# Altium schematic symbol library circuits integres.SchLib: 117 symbols (part 1 of 2)
Pins are listed as number, name and electrical type; pins without a type are passive.

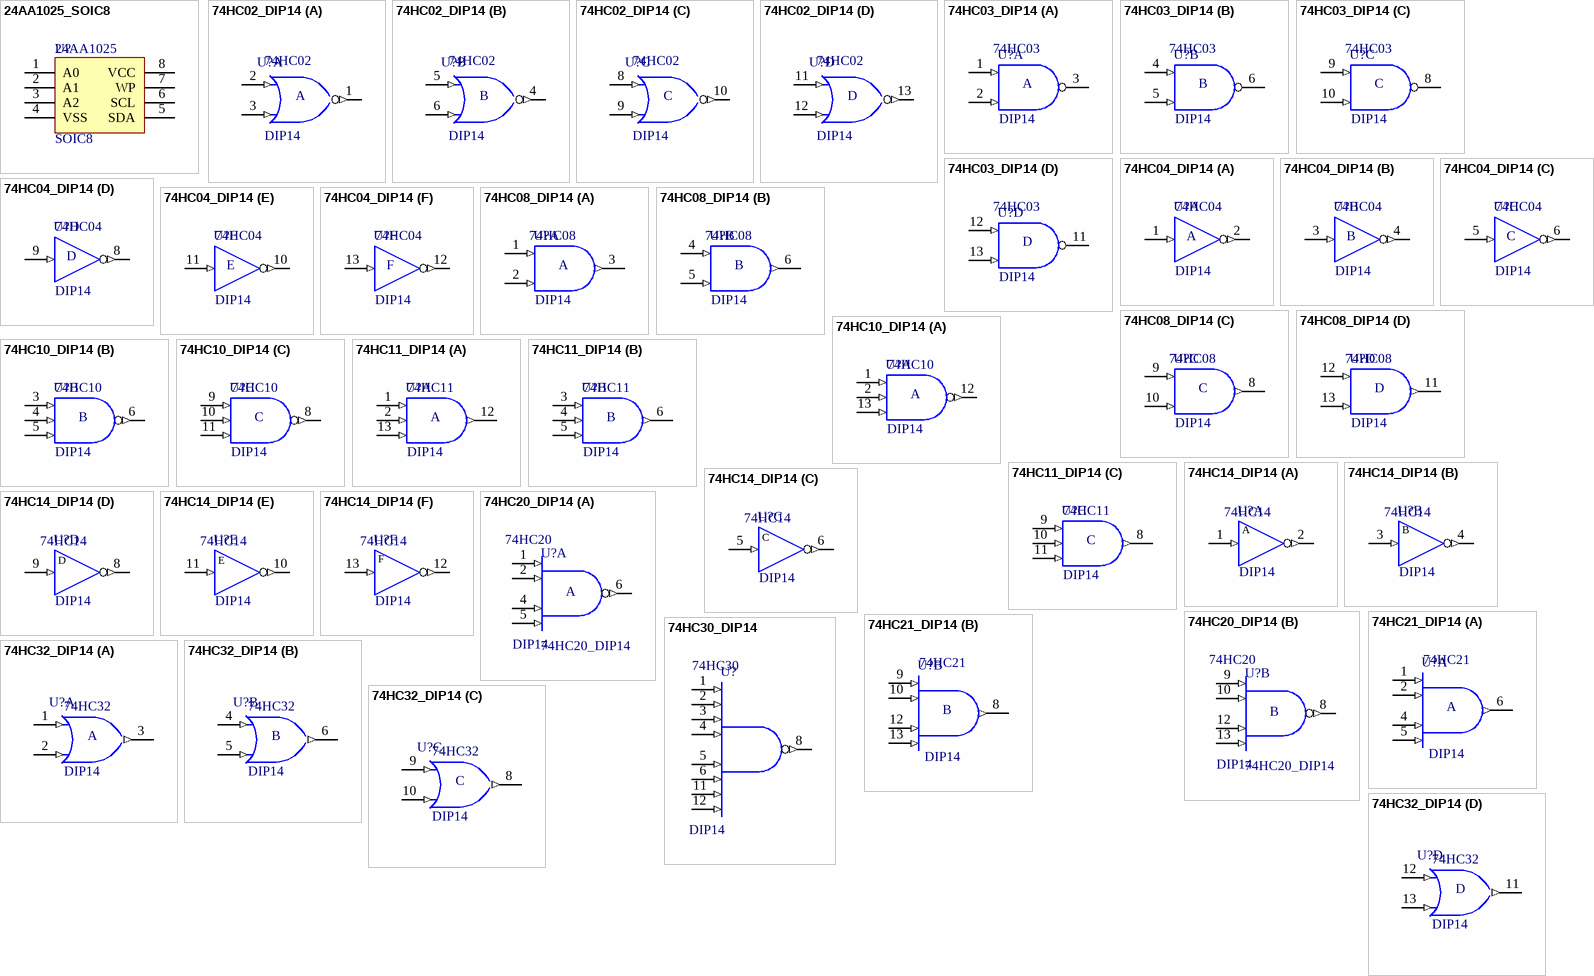
[diagram p0: symbols 24AA1025_SOIC8 to 74HC32_DIP14]

## 24AA1025_SOIC8
designator U?  Package: SOIC8  Type: 24AA1025  (hidden comment: 24AA1025_SOIC8)
MEMOIRE EEPROM SERIE 1024k - SOIC8
footprint SOIC8_PAS=1.27_LARG=4_LONG=5 (Small Outline Integrated Circuit ; 8 Leads ; Body Width = 4 mm ; Pitch = 1.27 mm ; IPC Low Density)
pins: 1 A0, 2 A1, 3 A2, 4 VSS, 5 SDA, 6 SCL, 7 WP, 8 VCC (power)

## 74HC02_DIP14
designator U?, comment Type: 74HC02  Package: DIP14  (hidden comment: 74HC02_DIP17)
4 PORTES LOGIQUES NOR A 2 ENTREES - DIP14
footprint Model Name (Footprint not found)
footprint DIP14_PAS=2.54_LARG=7.62_LONG=19 (Dual-In-Line Plastic Packages (PDIP) ; 14 Leads ; Row Spacing = 7.62 mm ; Pitch = 2.54 mm)
pins on every part: 7 GND (power) hidden to GND, 14 VCC (power) hidden to VCC
part A pins: 1 Y (out), 2 A (in), 3 B (in)
part B pins: 4 Y (out), 5 A (in), 6 B (in)
part C pins: 8 A (in), 9 B (in), 10 Y (out)
part D pins: 11 A (in), 12 B (in), 13 Y (out)
part C text: C
part D text: D

## 74HC03_DIP14
designator U?  Type: 74HC03  Package: DIP14  (hidden comment: 74HC03_DIP14)
4 PORTES LOGIQUES NAND A 2 ENTREES ET SORTIES DRAIN OUVERT - DIP14
3D model N014 (DIP; 14 Leads; Row Spacing 7.62 mm; Pitch 2.54 mm)
signal-integrity model SN74HC03N
footprint DIP14_PAS=2.54_LARG=7.62_LONG=19 (Dual-In-Line Plastic Packages (PDIP) ; 14 Leads ; Row Spacing = 7.62 mm ; Pitch = 2.54 mm)
pins on every part: 7 GND (power) hidden to GND, 14 VCC (power) hidden to VCC
part A pins: 1 A (in), 2 B (in), 3 Y (oc)
part B pins: 4 A (in), 5 B (in), 6 Y (oc)
part C pins: 8 Y (oc), 9 A (in), 10 B (in)
part D pins: 11 Y (oc), 12 A (in), 13 B (in)
part C text: C
part D text: D

## 74HC04_DIP14
designator U?  Type: 74HC04  Package: DIP14  (hidden comment: 74HC04_DIP14)
6 INVERSEURS - DIP14
3D model N014 (DIP; 14 Leads; Row Spacing 7.62 mm; Pitch 2.54 mm)
signal-integrity model SN74HC04N
footprint DIP14_PAS=2.54_LARG=7.62_LONG=19 (Dual-In-Line Plastic Packages (PDIP) ; 14 Leads ; Row Spacing = 7.62 mm ; Pitch = 2.54 mm)
pins on every part: 7 GND (power) hidden to GND, 14 VCC (power) hidden to VCC
part A pins: 1 A (in), 2 Y (out)
part B pins: 3 A (in), 4 Y (out)
part C pins: 5 A (in), 6 Y (out)
part D pins: 8 Y (out), 9 A (in)
part E pins: 10 Y (out), 11 A (in)
part F pins: 12 Y (out), 13 A (in)
part B text: B
part C text: C
part D text: D
part E text: E
part F text: F

## 74HC08_DIP14
designator U?  Type: 74HC08  Package: DIP14  (hidden comment: 74HC08_DIP14)
4 PORTES LOGIQUES AND A 2 ENTREES - DIP14
3D model DIP14 (DIP; 14 Leads; Row Spacing 7.62 mm; Pitch 2.54 mm)
signal-integrity model M74HC08B1R
footprint DIP14_PAS=2.54_LARG=7.62_LONG=19 (Dual-In-Line Plastic Packages (PDIP) ; 14 Leads ; Row Spacing = 7.62 mm ; Pitch = 2.54 mm)
pins on every part: 7 GND (power) hidden to GND, 14 VCC (power) hidden to VCC
part A pins: 1 A (in), 2 B (in), 3 Y (out)
part B pins: 4 A (in), 5 B (in), 6 Y (out)
part C pins: 8 Y (out), 9 A (in), 10 B (in)
part D pins: 11 Y (out), 12 A (in), 13 B (in)
part C text: C
part D text: D

## 74HC10_DIP14
designator U?  Type: 74HC10  Package: DIP14  (hidden comment: 74HC10_DIP14)
3 PORTES LOGIQUES NAND A 3 ENTREES - DIP14
3D model DIP14 (DIP; 14 Leads; Row Spacing 7.62 mm; Pitch 2.54 mm)
signal-integrity model M74HC10B1R
footprint DIP14_PAS=2.54_LARG=7.62_LONG=19 (Dual-In-Line Plastic Packages (PDIP) ; 14 Leads ; Row Spacing = 7.62 mm ; Pitch = 2.54 mm)
pins on every part: 7 GND (power) hidden to GND, 14 VCC (power) hidden to VCC
part A pins: 1 A (in), 2 B (in), 12 Y (out), 13 C (in)
part B pins: 3 A (in), 4 B (in), 5 C (in), 6 Y (out)
part C pins: 8 Y (out), 9 A (in), 10 B (in), 11 C (in)

## 74HC11_DIP14
designator U?  Type: 74HC11  Package: DIP14  (hidden comment: 74HC11_DIP14)
3 PORTES LOGIQUES AND A 3 ENTREES - DIP14
3D model DIP14 (DIP; 14 Leads; Row Spacing 7.62 mm; Pitch 2.54 mm)
signal-integrity model M74HC11B1R
footprint DIP14_PAS=2.54_LARG=7.62_LONG=19 (Dual-In-Line Plastic Packages (PDIP) ; 14 Leads ; Row Spacing = 7.62 mm ; Pitch = 2.54 mm)
pins on every part: 7 GND (power) hidden to GND, 14 VCC (power) hidden to VCC
part A pins: 1 A (in), 2 B (in), 12 Y (out), 13 C (in)
part B pins: 3 A (in), 4 B (in), 5 C (in), 6 Y (out)
part C pins: 8 Y (out), 9 A (in), 10 B (in), 11 C (in)

## 74HC14_DIP14
designator U?  Type: 74HC14  Package: DIP14  (hidden comment: 74HC14_DIP14)
6 PORTES LOGIQUES INVERSEUSES A TRIGGER DE SCHMITT - DIP14
signal-integrity model MC74HC14AN
3D model boitier_DIP14 (PCB3D Model)
footprint DIP14_PAS=2.54_LARG=7.62_LONG=19 (Dual-In-Line Plastic Packages (PDIP) ; 14 Leads ; Row Spacing = 7.62 mm ; Pitch = 2.54 mm)
pins on every part: 7 GND (power) hidden to GND, 14 VDD (power) hidden to VDD
part A pins: 1 A (in), 2 Y (out)
part B pins: 3 A (in), 4 Y (out)
part C pins: 5 A (in), 6 Y (out)
part D pins: 8 Y (out), 9 A (in)
part E pins: 10 Y (out), 11 A (in)
part F pins: 12 Y (out), 13 A (in)
part B text: B
part C text: C
part D text: D
part E text: E
part F text: F

## 74HC20_DIP14
designator U?  Package: DIP14  Type: 74HC20
2 PORTES LOGIQUES NAND A 4 ENTREES - DIP14
3D model DIP14 (DIP; 14 Leads; Row Spacing 7.62 mm; Pitch 2.54 mm)
signal-integrity model M74HC20B1R
footprint DIP14_PAS=2.54_LARG=7.62_LONG=19 (Dual-In-Line Plastic Packages (PDIP) ; 14 Leads ; Row Spacing = 7.62 mm ; Pitch = 2.54 mm)
pins on every part: 7 GND (power) hidden to GND, 14 VCC (power) hidden to VCC
part A pins: 1 A (in), 2 B (in), 4 C (in), 5 D (in), 6 Y (out)
part B pins: 8 Y (out), 9 A (in), 10 B (in), 12 C (in), 13 D (in)

## 74HC21_DIP14
designator U?  Type: 74HC21  Package: DIP14  (hidden comment: 74HC21_DIP14)
2 PORTES LOGIQUES NAND A 4 ENTREES - DIP14
3D model DIP14 (DIP; 14 Leads; Row Spacing 7.62 mm; Pitch 2.54 mm)
signal-integrity model M74HC21B1R
footprint DIP14_PAS=2.54_LARG=7.62_LONG=19 (Dual-In-Line Plastic Packages (PDIP) ; 14 Leads ; Row Spacing = 7.62 mm ; Pitch = 2.54 mm)
pins on every part: 7 GND (power) hidden to GND, 14 VCC (power) hidden to VCC
part A pins: 1 A (in), 2 B (in), 4 C (in), 5 D (in), 6 Y (out)
part B pins: 8 Y (out), 9 A (in), 10 B (in), 12 C (in), 13 D (in)

## 74HC30_DIP14
designator U?  Type: 74HC30  Package: DIP14  (hidden comment: 74HC30_DIP14)
PORTE LOGIQUE NAND A 8 ENTREES - DIP14
3D model DIP14 (DIP; 14 Leads; Row Spacing 7.62 mm; Pitch 2.54 mm)
signal-integrity model M74HC30B1R
footprint DIP14_PAS=2.54_LARG=7.62_LONG=19 (Dual-In-Line Plastic Packages (PDIP) ; 14 Leads ; Row Spacing = 7.62 mm ; Pitch = 2.54 mm)
pins: 1 A (in), 2 B (in), 3 C (in), 4 D (in), 5 E (in), 6 F (in), 7 GND (power) hidden to GND, 8 Y (out), 11 G (in), 12 H (in), 14 VCC (power) hidden to VCC

## 74HC32_DIP14
designator U?  Type: 74HC32  Package: DIP14  (hidden comment: 74HC32_DIP14)
4 PORTES LOGIQUES OR A 2 ENTREES - DIP14
3D model DIP14 (DIP; 14 Leads; Row Spacing 7.62 mm; Pitch 2.54 mm)
signal-integrity model M74HC32B1R
footprint DIP14_PAS=2.54_LARG=7.62_LONG=19 (Dual-In-Line Plastic Packages (PDIP) ; 14 Leads ; Row Spacing = 7.62 mm ; Pitch = 2.54 mm)
pins on every part: 7 GND (power) hidden to GND, 14 VCC (power) hidden to VCC
part A pins: 1 A (in), 2 B (in), 3 Y (out)
part B pins: 4 A (in), 5 B (in), 6 Y (out)
part C pins: 8 Y (out), 9 A (in), 10 B (in)
part D pins: 11 Y (out), 12 A (in), 13 B (in)
part C text: C
part D text: D

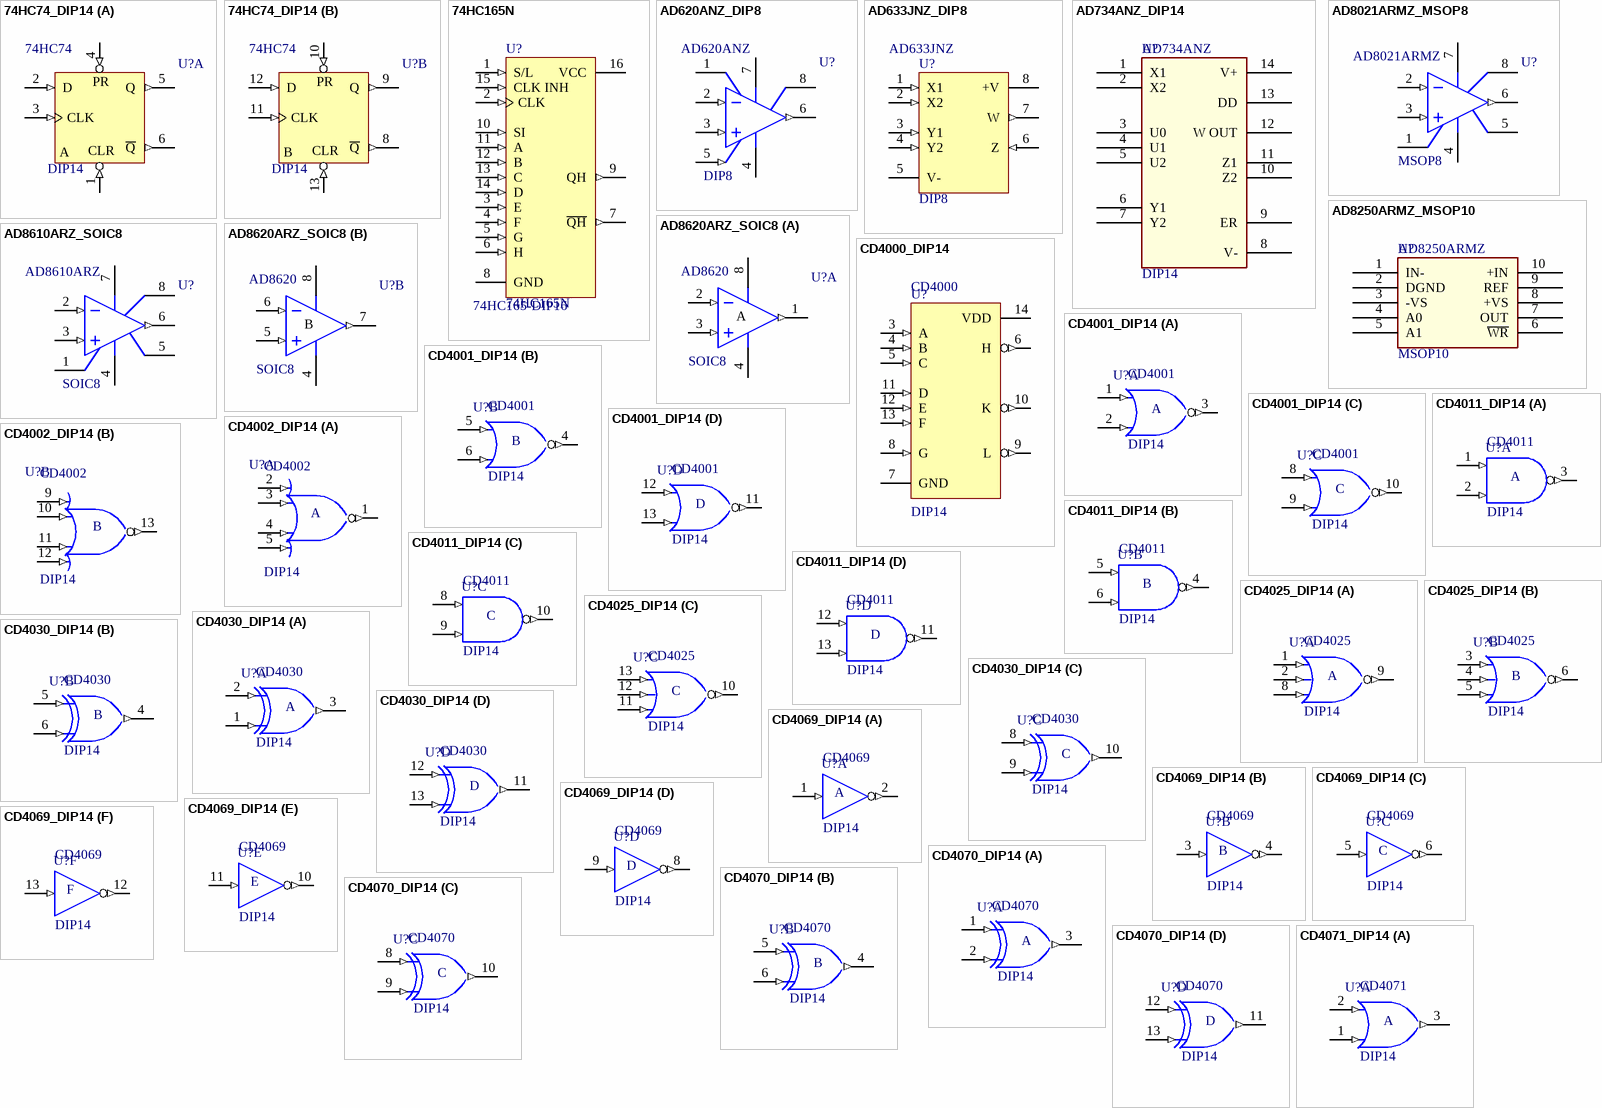
[diagram p1: symbols 74HC74_DIP14 to CD4071_DIP14]

## 74HC74_DIP14
designator U?  Package: DIP14  Type: 74HC74  (hidden comment: 74HC74_DIP14)
2 BASCULES D AVEC RESET-DECLENCHEMENT FRONT MONTANT- DIP14
footprint DIP14_PAS=2.54_LARG=7.62_LONG=19 (Dual-In-Line Plastic Packages (PDIP) ; 14 Leads ; Row Spacing = 7.62 mm ; Pitch = 2.54 mm)
pins on every part: 7 GND (power) hidden to GND, 14 VCC (power) hidden to VCC
part A pins: 1 CLR (in), 2 D (in), 3 CLK (in), 4 PR (in), 5 Q (out), 6 ~{Q} (out)
part B pins: 8 ~{Q} (out), 9 Q (out), 10 PR (in), 11 CLK (in), 12 D (in), 13 CLR (in)
part A text: A
part B text: B

## 74HC165N
designator U?  Type: 74HC165-DIP16
8-Bit Parallel-Load Shift Register; Published: 8-Jun-2000; LatestRevisionDate: 04-Mar-2005; LatestRevisionNote: Stylized 3D Model Added.; DatasheetVersion: May-1997; PackageVersion: Oct-1995; PackageReference: N016; PackageDescription: DIP; 16 Leads; Row Spacing 7.62 mm; Pitch 2.54 mm; Code_JEDEC: MS-001-BB; ComponentLink1Description: Manufacturer Link; ComponentLink1URL: http://www.ti.com/; ComponentLink2Description: Datasheet; ComponentLink2URL: http://www-s.ti.com/sc/ds/sn74hc165.pdf
3D model N016 (DIP; 16 Leads; Row Spacing 7.62 mm; Pitch 2.54 mm)
signal-integrity model SN74HC165N
footprint DIP16_PAS=2.54_LARG=7.62_LONG=21.6 (Dual-In-Line Plastic Packages (PDIP) ; 16 Leads ; Row Spacing = 7.62 mm ; Pitch = 2.54 mm)
pins: 1 S/L (in), 2 CLK (in), 3 E (in), 4 F (in), 5 G (in), 6 H (in), 7 ~{QH} (out), 8 GND (power), 9 QH (out), 10 SI (in), 11 A (in), 12 B (in), 13 C (in), 14 D (in), 15 CLK INH (in), 16 VCC (power)

## AD620ANZ_DIP8
designator U?  Package: DIP8  Type: AD620ANZ  (hidden comment: AD620ANZ_DIP8)
AMPLIFICATEUR D'INSTRUMENTATION FAIBLE CONSOMMATION - DIP8
3D model N8 (DIP; 8 Leads; Row Spacing 7.62 mm; Pitch 2.54 mm)
simulation model AD620A (SUBCKT)
footprint DIP8_PAS=2.54_LARG=7.62_LONG=10.9 (Dual-In-Line Plastic Packages (PDIP) ; 8 Leads ; Row Spacing = 7.62 mm ; Pitch = 2.54 mm)
pins: 1 RG, 2 -IN (in), 3 +IN (in), 4 V- (power), 5 REF (in), 6 OUT (out), 7 V+ (power), 8 RG

## AD633JNZ_DIP8
designator U?  Package: DIP8  Type: AD633JNZ  (hidden comment: AD633JNZ_DIP8)
MULTIPLICATEUR ANALOGIQUE 4 QUADRANTS 2% 1MHz - DIP8
3D model Q-8 (DIP; 8 Leads; Row Spacing 7.62 mm; Pitch 2.54 mm)
simulation model AD633J (SUBCKT)
footprint DIP8_PAS=2.54_LARG=7.62_LONG=10.9 (Dual-In-Line Plastic Packages (PDIP) ; 8 Leads ; Row Spacing = 7.62 mm ; Pitch = 2.54 mm)
pins: 1 X1 (in), 2 X2 (in), 3 Y1 (in), 4 Y2 (in), 5 V- (power), 6 Z (in), 7 W (out), 8 +V (power)

## AD734ANZ_DIP14
designator U?  Package: DIP14  Type: AD734ANZ  (hidden comment: AD734ANZ_DIP14)
MULTIPLICATEUR ANALOGIQUE 4 QUADRANTS - DIVISEUR - 0.4% 10MHz - DIP14
footprint DIP14_PAS=2.54_LARG=7.62_LONG=19 (Dual-In-Line Plastic Packages (PDIP) ; 14 Leads ; Row Spacing = 7.62 mm ; Pitch = 2.54 mm)
pins: 1 X1, 2 X2, 3 U0, 4 U1, 5 U2, 6 Y1, 7 Y2, 8 V-, 9 ER, 10 Z2, 11 Z1, 12 W OUT, 13 DD, 14 V+

## AD8021ARMZ_MSOP8
designator U?  Package: MSOP8  Type: AD8021ARMZ  (hidden comment: AD8021ARMZ_MSOP8)
AMPLIFICATEUR RAPIDE FAIBLE BRUIT POUR SYSTEME 16BITS - MSOP8
footprint MSOP8_PAS=0.65_LARG=5_LONG=3 (Mini Small Outline Plastic Package ; 8 Leads ; Body Width = 3 mm ; Pitch = 0.65 mm)
pins: 1 OS NULL, 2 IN- (in), 3 IN+ (in), 4 V- (power), 5 OS NULL, 6 OUT (out), 7 V+ (power), 8 NC

## AD8250ARMZ_MSOP10
designator U?  Type: AD8250ARMZ  Package: MSOP10  (hidden comment: AD8250ARMZ_MSOP10)
AMPLIFICATEUR D'INSTRUMENTATION AVEC GAIN PROGRAMMABLE - MSOP10
footprint MSOP10_PAS=0.5_LARG=4.9_LONG=3 (Mini Small Outline Plastic Package ; 10 Leads ; Body Width = 3 mm ; Pitch = 0.5 mm)
pins: 1 IN-, 2 DGND, 3 -VS, 4 A0, 5 A1, 6 ~{WR}, 7 OUT, 8 +VS, 9 REF, 10 +IN

## AD8610ARZ_SOIC8
designator U?  Type: AD8610ARZ  Package: SOIC8  (hidden comment: AD8610ARZ_SOIC8)
AMPLIFICATEUR OPERATIONNEL DE PRECISION FAIBLE BRUIT ENTREES JFET - LARGE BANDE - SOIC8
footprint SOIC8_PAS=1.27_LARG=4_LONG=5 (Small Outline Integrated Circuit ; 8 Leads ; Body Width = 4 mm ; Pitch = 1.27 mm ; IPC Low Density)
pins: 1 OS NULL, 2 IN- (in), 3 IN+ (in), 4 V- (power), 5 OS NULL, 6 OUT (out), 7 V+ (power), 8 NC

## AD8620ARZ_SOIC8
designator U?  Type: AD8620  Package: SOIC8  (hidden comment: AD8620ARZ_SOIC8)
DOUBLE AMPLIFICATEUR OPERATIONNEL DE PRECISION - FAIBLE BRUIT- ENTREES JFET - LARGE BANDE - SOIC8
footprint SOIC8_PAS=1.27_LARG=4_LONG=5 (Small Outline Integrated Circuit ; 8 Leads ; Body Width = 4 mm ; Pitch = 1.27 mm ; IPC Low Density)
pins on every part: 4 V- (power), 8 V+ (power)
part A pins: 1 OUTA (out), 2 INA- (in), 3 INA+ (in)
part B pins: 5 INB+ (in), 6 INB- (in), 7 OUTB (out)
part A text: A
part B text: B

## CD4000_DIP14
designator U?  Type: CD4000  Package: DIP14  (hidden comment: CD4000_DIP14)
2 PORTES LOGIQUES NOR A 3 ENTREES + 1 INVERSEUR - DIP14
3D model DIP14 (DIP; 14 Leads; Row Spacing 7.62 mm; Pitch 2.54 mm)
simulation model HCF4000 (SIMCODE)
footprint DIP14_PAS=2.54_LARG=7.62_LONG=19 (Dual-In-Line Plastic Packages (PDIP) ; 14 Leads ; Row Spacing = 7.62 mm ; Pitch = 2.54 mm)
pins: 3 A (in), 4 B (in), 5 C (in), 6 H (out), 7 GND (power), 8 G (in), 9 L (out), 10 K (out), 11 D (in), 12 E (in), 13 F (in), 14 VDD (power)

## CD4001_DIP14
designator U?  Type: CD4001  Package: DIP14  (hidden comment: CD4001_DIP14)
4 PORTES LOGIQUES NOR A 2 ENTREES - DIP14
3D model DIP14 (DIP; 14 Leads; Row Spacing 7.62 mm; Pitch 2.54 mm)
simulation model HCC4001 (SIMCODE)
footprint DIP14_PAS=2.54_LARG=7.62_LONG=19 (Dual-In-Line Plastic Packages (PDIP) ; 14 Leads ; Row Spacing = 7.62 mm ; Pitch = 2.54 mm)
pins on every part: 7 GND (power) hidden to GND, 14 VDD (power) hidden to VDD
part A pins: 1 A (in), 2 B (in), 3 J (out)
part B pins: 4 K (out), 5 C (in), 6 D (in)
part C pins: 8 E (in), 9 F (in), 10 L (out)
part D pins: 11 M (out), 12 G (in), 13 H (in)

## CD4002_DIP14
designator U?  Type: CD4002  Package: DIP14  (hidden comment: CD4002_DIP14)
2 PORTES LOGIQUES NOR A 4 ENTREES - DIP14
3D model DIP14 (DIP; 14 Leads; Row Spacing 7.62 mm; Pitch 2.54 mm)
simulation model HCF4002 (SIMCODE)
footprint DIP14_PAS=2.54_LARG=7.62_LONG=19 (Dual-In-Line Plastic Packages (PDIP) ; 14 Leads ; Row Spacing = 7.62 mm ; Pitch = 2.54 mm)
pins on every part: 7 GND (power) hidden to GND, 14 VDD (power) hidden to VDD
part A pins: 1 J (out), 2 A (in), 3 B (in), 4 C (in), 5 D (in)
part B pins: 9 E (in), 10 F (in), 11 G (in), 12 H (in), 13 K (out)

## CD4011_DIP14
designator U?  Type: CD4011  Package: DIP14  (hidden comment: CD4011_DIP14)
4 PORTES LOGIQUES NAND A 2 ENTREES - DIP14
3D model N14A (DIP, 14-Pin, Row Spacing 7.62 mm, Pitch 2.54 mm)
simulation model FSC_4011 (SIMCODE)
footprint DIP14_PAS=2.54_LARG=7.62_LONG=19 (Dual-In-Line Plastic Packages (PDIP) ; 14 Leads ; Row Spacing = 7.62 mm ; Pitch = 2.54 mm)
pins on every part: 7 GND (power) hidden to GND, 14 VDD (power) hidden to VDD
part A pins: 1 A (in), 2 B (in), 3 J (out)
part B pins: 4 J (out), 5 A (in), 6 B (in)
part C pins: 8 A (in), 9 F (in), 10 J (out)
part D pins: 11 J (out), 12 A (in), 13 B (in)
part C text: C
part D text: D

## CD4025_DIP14
designator U?  Type: CD4025  Package: DIP14  (hidden comment: CD4025_DIP14)
3 PORTES LOGIQUES NOR A 3 ENTREES - DIP14
3D model DIP14 (DIP; 14 Leads; Row Spacing 7.62 mm; Pitch 2.54 mm)
simulation model HCC4025 (SIMCODE)
footprint DIP14_PAS=2.54_LARG=7.62_LONG=19 (Dual-In-Line Plastic Packages (PDIP) ; 14 Leads ; Row Spacing = 7.62 mm ; Pitch = 2.54 mm)
pins on every part: 7 GND (power) hidden to GND, 14 VDD (power) hidden to VDD
part A pins: 1 A (in), 2 B (in), 8 C (in), 9 J (out)
part B pins: 3 D (in), 4 E (in), 5 F (in), 6 K (out)
part C pins: 10 L (out), 11 I (in), 12 H (in), 13 G (in)

## CD4030_DIP14
designator U?  Type: CD4030  Package: DIP14  (hidden comment: CD4030_DIP14)
4 PORTES LOGIQUES XOR A 2 ENTREES - DIP14
3D model DIP14 (DIP; 14 Leads; Row Spacing 7.62 mm; Pitch 2.54 mm)
simulation model HCC4030 (SIMCODE)
footprint DIP14_PAS=2.54_LARG=7.62_LONG=19 (Dual-In-Line Plastic Packages (PDIP) ; 14 Leads ; Row Spacing = 7.62 mm ; Pitch = 2.54 mm)
pins on every part: 7 GND (power) hidden to GND, 14 VDD (power) hidden to VDD
part A pins: 1 B (in), 2 A (in), 3 J (out)
part B pins: 4 K (out), 5 C (in), 6 D (in)
part C pins: 8 E (in), 9 F (in), 10 L (out)
part D pins: 11 M (out), 12 G (in), 13 H (in)

## CD4069_DIP14
designator U?  Type: CD4069  Package: DIP14  (hidden comment: CD4069_DIP14)
6 INVERSEURS - DIP14
3D model DIP14 (DIP; 14 Leads; Row Spacing 7.62 mm; Pitch 2.54 mm)
simulation model HCC4069 (SIMCODE)
footprint DIP14_PAS=2.54_LARG=7.62_LONG=19 (Dual-In-Line Plastic Packages (PDIP) ; 14 Leads ; Row Spacing = 7.62 mm ; Pitch = 2.54 mm)
pins on every part: 7 GND (power) hidden to GND, 14 VDD (power) hidden to VDD
part A pins: 1 A (in), 2 G (out)
part B pins: 3 B (in), 4 H (out)
part C pins: 5 C (in), 6 I (out)
part D pins: 8 J (out), 9 D (in)
part E pins: 10 K (out), 11 E (in)
part F pins: 12 L (out), 13 F (in)

## CD4070_DIP14
designator U?  Type: CD4070  Package: DIP14  (hidden comment: CD4070_DIP14)
4 PORTES LOGIQUES XNOR A 2 ENTREES - DIP14
3D model DIP14 (DIP; 14 Leads; Row Spacing 7.62 mm; Pitch 2.54 mm)
simulation model HCC4070 (SIMCODE)
footprint DIP14_PAS=2.54_LARG=7.62_LONG=19 (Dual-In-Line Plastic Packages (PDIP) ; 14 Leads ; Row Spacing = 7.62 mm ; Pitch = 2.54 mm)
pins on every part: 7 GND (power) hidden to GND, 14 VDD (power) hidden to VDD
part A pins: 1 A (in), 2 B (in), 3 J (out)
part B pins: 4 K (out), 5 C (in), 6 D (in)
part C pins: 8 E (in), 9 F (in), 10 L (out)
part D pins: 11 M (out), 12 G (in), 13 H (in)

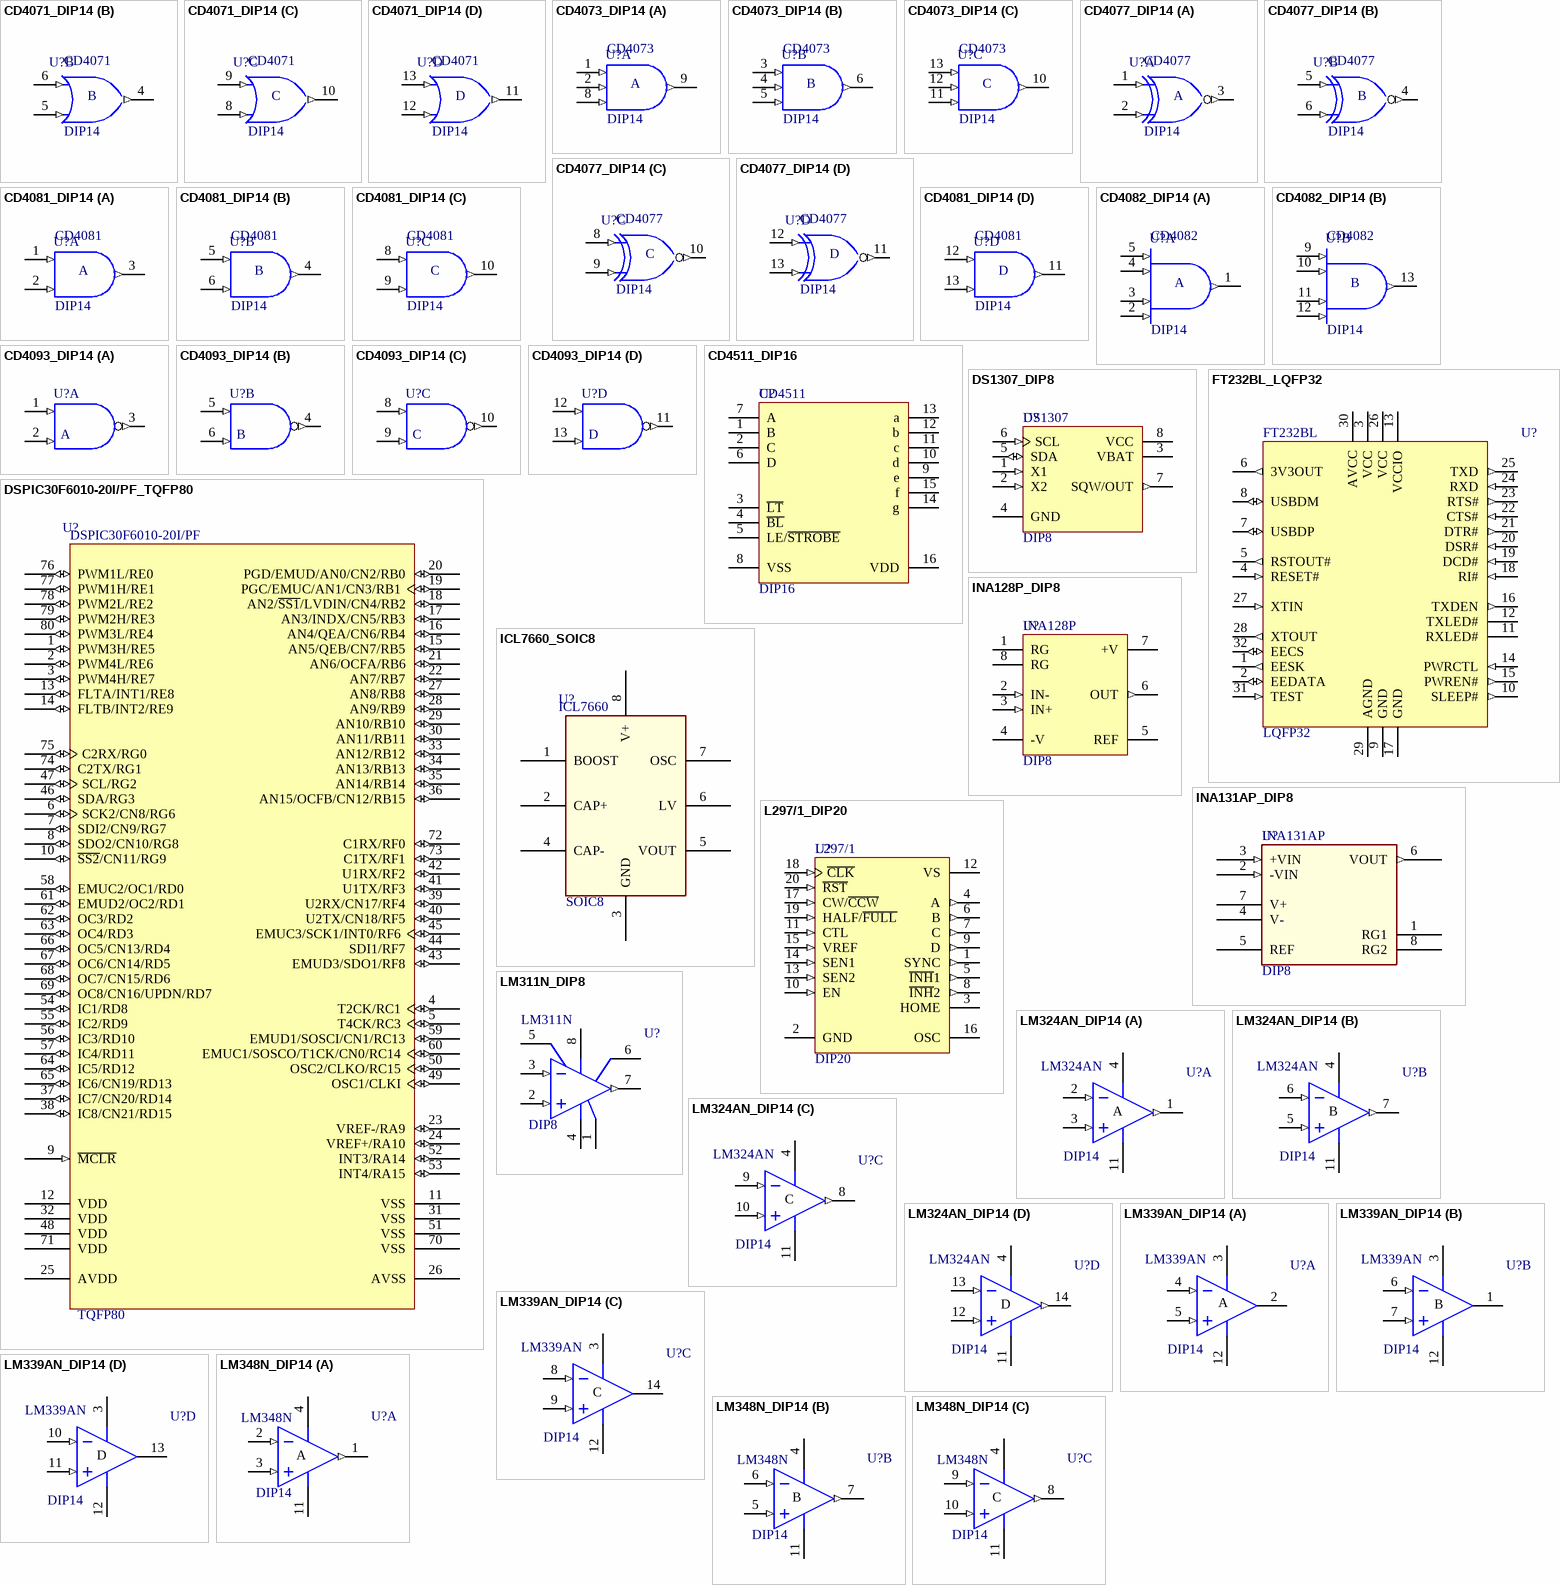
[diagram p2: symbols CD4071_DIP14 to LM348N_DIP14]

## CD4071_DIP14
designator U?  Type: CD4071  Package: DIP14  (hidden comment: CD4071_DIP14)
4 PORTES LOGIQUES OR A 2 ENTREES - DIP14
3D model DIP14 (DIP; 14 Leads; Row Spacing 7.62 mm; Pitch 2.54 mm)
simulation model HCC4071 (SIMCODE)
footprint DIP14_PAS=2.54_LARG=7.62_LONG=19 (Dual-In-Line Plastic Packages (PDIP) ; 14 Leads ; Row Spacing = 7.62 mm ; Pitch = 2.54 mm)
pins on every part: 7 GND (power) hidden to GND, 14 VDD (power) hidden to VDD
part A pins: 1 B (in), 2 A (in), 3 J (out)
part B pins: 4 K (out), 5 D (in), 6 C (in)
part C pins: 8 F (in), 9 E (in), 10 L (out)
part D pins: 11 M (out), 12 H (in), 13 G (in)

## CD4073_DIP14
designator U?  Type: CD4073  Package: DIP14  (hidden comment: CD4073_DIP14)
3 PORTES LOGIQUES AND A 3 ENTREES - DIP14
3D model DIP14 (DIP; 14 Leads; Row Spacing 7.62 mm; Pitch 2.54 mm)
simulation model HCC4073 (SIMCODE)
footprint DIP14_PAS=2.54_LARG=7.62_LONG=19 (Dual-In-Line Plastic Packages (PDIP) ; 14 Leads ; Row Spacing = 7.62 mm ; Pitch = 2.54 mm)
pins on every part: 7 GND (power) hidden to GND, 14 VDD (power) hidden to VDD
part A pins: 1 A (in), 2 B (in), 8 C (in), 9 J (out)
part B pins: 3 D (in), 4 E (in), 5 F (in), 6 K (out)
part C pins: 10 L (out), 11 I (in), 12 H (in), 13 G (in)

## CD4077_DIP14
designator U?  Type: CD4077  Package: DIP14  (hidden comment: CD4077_DIP14)
4 PORTES LOGIQUES XNOR A 2 ENTREES - DIP14
3D model DIP14 (DIP; 14 Leads; Row Spacing 7.62 mm; Pitch 2.54 mm)
simulation model HCC4077 (SIMCODE)
footprint DIP14_PAS=2.54_LARG=7.62_LONG=19 (Dual-In-Line Plastic Packages (PDIP) ; 14 Leads ; Row Spacing = 7.62 mm ; Pitch = 2.54 mm)
pins on every part: 7 GND (power) hidden to GND, 14 VCC (power) hidden to VCC
part A pins: 1 A (in), 2 B (in), 3 J (out)
part B pins: 4 K (out), 5 C (in), 6 D (in)
part C pins: 8 E (in), 9 F (in), 10 L (out)
part D pins: 11 M (out), 12 G (in), 13 H (in)

## CD4081_DIP14
designator U?  Type: CD4081  Package: DIP14  (hidden comment: CD4081_DIP14)
4 PORTES LOGIQUES AND A 2 ENTREES - DIP14
3D model DIP14 (DIP; 14 Leads; Row Spacing 7.62 mm; Pitch 2.54 mm)
simulation model HCC4081 (SIMCODE)
footprint DIP14_PAS=2.54_LARG=7.62_LONG=19 (Dual-In-Line Plastic Packages (PDIP) ; 14 Leads ; Row Spacing = 7.62 mm ; Pitch = 2.54 mm)
pins on every part: 7 GND (power) hidden to GND, 14 VDD (power) hidden to VDD
part A pins: 1 A (in), 2 B (in), 3 J (out)
part B pins: 4 K (out), 5 C (in), 6 D (in)
part C pins: 8 E (in), 9 F (in), 10 L (out)
part D pins: 11 M (out), 12 G (in), 13 H (in)

## CD4082_DIP14
designator U?  Type: CD4082  Package: DIP14  (hidden comment: CD4082_DIP14)
2 PORTES LOGIQUES AND A 4 ENTREES - DIP14
3D model DIP14 (DIP; 14 Leads; Row Spacing 7.62 mm; Pitch 2.54 mm)
simulation model HCC4082 (SIMCODE)
footprint DIP14_PAS=2.54_LARG=7.62_LONG=19 (Dual-In-Line Plastic Packages (PDIP) ; 14 Leads ; Row Spacing = 7.62 mm ; Pitch = 2.54 mm)
pins on every part: 7 GND (power) hidden to GND, 14 VDD (power) hidden to VDD
part A pins: 1 J (out), 2 D (in), 3 C (in), 4 B (in), 5 A (in)
part B pins: 9 E (in), 10 F (in), 11 G (in), 12 H (in), 13 K (out)

## CD4093_DIP14
designator U?  (value not drawn)
4 PORTES LOGIQUES NAND A 2 ENTREES A TRIGGER DE SCHMITT - DIP14
3D model N14A (DIP, 14-Pin, Row Spacing 7.62 mm, Pitch 2.54 mm)
simulation model FSC_4093 (SIMCODE)
footprint DIP14_PAS=2.54_LARG=7.62_LONG=19 (Dual-In-Line Plastic Packages (PDIP) ; 14 Leads ; Row Spacing = 7.62 mm ; Pitch = 2.54 mm)
pins on every part: 7 GND (power) hidden to GND, 14 VCC (power) hidden to VCC
part A pins: 1 A (in), 2 B (in), 3 J (out)
part B pins: 4 K (out), 5 C (in), 6 D (in)
part C pins: 8 E (in), 9 F (in), 10 L (out)
part D pins: 11 M (out), 12 G (in), 13 H (in)

## CD4511_DIP16
designator U?  Package: DIP16  Type: CD4511  (hidden comment: CD4511_DIP16)
DECODEUR - DRIVER 7 SEGMENTS
footprint DIP16_PAS=2.54_LARG=7.62_LONG=21.6 (Dual-In-Line Plastic Packages (PDIP) ; 16 Leads ; Row Spacing = 7.62 mm ; Pitch = 2.54 mm)
pins: 1 B, 2 C, 3 ~{LT}, 4 ~{BL}, 5 LE/~{STROBE}, 6 D, 7 A, 8 VSS, 9 e, 10 d, 11 c, 12 b, 13 a, 14 g, 15 f, 16 VDD

## DS1307_DIP8
designator U?  Type: DS1307  Package: DIP8  (hidden comment: DS1307_DIP8)
HORLOGE TEMPS REEL SERIE - DIP8
3D model DIP8 (DIP; 8 Leads; Row Spacing 7.62 mm; Pitch 2.54 mm)
footprint DIP8_PAS=2.54_LARG=7.62_LONG=10.9 (Dual-In-Line Plastic Packages (PDIP) ; 8 Leads ; Row Spacing = 7.62 mm ; Pitch = 2.54 mm)
pins: 1 X1 (in), 2 X2 (in), 3 VBAT (power), 4 GND (power), 5 SDA (io), 6 SCL (in), 7 SQW/OUT (out), 8 VCC (power)

## DSPIC30F6010-20I/PF_TQFP80
designator U?  Type: DSPIC30F6010-20I/PF  Package: TQFP80  (hidden comment: DSPIC30F6010-20I/PF_TQFP80)
MICROCONTROLEUR DSPIC 16 BITS 20MIPS - TQFP80
pins: 1 PWM3H/RE5 (io), 2 PWM4L/RE6 (io), 3 PWM4H/RE7 (io), 4 T2CK/RC1 (io), 5 T4CK/RC3 (io), 6 SCK2/CN8/RG6 (io), 7 SDI2/CN9/RG7 (io), 8 SDO2/CN10/RG8 (io), 9 ~{MCLR} (in), 10 ~{SS2}/CN11/RG9 (io), 11 VSS (power), 12 VDD (power), 13 FLTA/INT1/RE8 (io), 14 FLTB/INT2/RE9 (io), 15 AN5/QEB/CN7/RB5 (io), 16 AN4/QEA/CN6/RB4 (io), 17 AN3/INDX/CN5/RB3 (io), 18 AN2/~{SS1}/LVDIN/CN4/RB2 (io), 19 PGC/EMUC/AN1/CN3/RB1 (io), 20 PGD/EMUD/AN0/CN2/RB0 (io), 21 AN6/OCFA/RB6 (io), 22 AN7/RB7 (io), 23 VREF-/RA9 (io), 24 VREF+/RA10 (io), 25 AVDD (power), 26 AVSS (power), 27 AN8/RB8 (io), 28 AN9/RB9 (io), 29 AN10/RB10 (io), 30 AN11/RB11 (io), 31 VSS (power), 32 VDD (power), 33 AN12/RB12 (io), 34 AN13/RB13 (io), 35 AN14/RB14 (io), 36 AN15/OCFB/CN12/RB15 (io), 37 IC7/CN20/RD14 (io), 38 IC8/CN21/RD15 (io), 39 U2RX/CN17/RF4 (io), 40 U2TX/CN18/RF5 (io), 41 U1TX/RF3 (io), 42 U1RX/RF2 (io), 43 EMUD3/SDO1/RF8 (io), 44 SDI1/RF7 (io), 45 EMUC3/SCK1/INT0/RF6 (io), 46 SDA/RG3 (io), 47 SCL/RG2 (io), 48 VDD (power), 49 OSC1/CLKI (io), 50 OSC2/CLKO/RC15 (io), 51 VSS (power), 52 INT3/RA14 (io), 53 INT4/RA15 (io), 54 IC1/RD8 (io), 55 IC2/RD9 (io), 56 IC3/RD10 (io), 57 IC4/RD11 (io), 58 EMUC2/OC1/RD0 (io), 59 EMUD1/SOSCI/CN1/RC13 (io), 60 EMUC1/SOSCO/T1CK/CN0/RC14 (io), 61 EMUD2/OC2/RD1 (io), 62 OC3/RD2 (io), 63 OC4/RD3 (io), 64 IC5/RD12 (io), 65 IC6/CN19/RD13 (io), 66 OC5/CN13/RD4 (io), 67 OC6/CN14/RD5 (io), 68 OC7/CN15/RD6 (io), 69 OC8/CN16/UPDN/RD7 (io), 70 VSS (power), 71 VDD (power), 72 C1RX/RF0 (io), 73 C1TX/RF1 (io), 74 C2TX/RG1 (io), 75 C2RX/RG0 (io), 76 PWM1L/RE0 (io), 77 PWM1H/RE1 (io), 78 PWM2L/RE2 (io), 79 PWM2H/RE3 (io), 80 PWM3L/RE4 (io)
1 alternate drawing of the same symbol

## FT232BL_LQFP32
designator U?, comment Type: FT232BL  Package: LQFP32  (hidden comment: FT232BL/TR_LQFP32)
INTERFACE USB-UART - LQFP32
pins: 1 EESK (out), 2 EEDATA (io), 3 VCC (power), 4 RESET# (in), 5 RSTOUT# (out), 6 3V3OUT (out), 7 USBDP (io), 8 USBDM (io), 9 GND (power), 10 SLEEP# (out), 11 RXLED# (oc), 12 TXLED# (oc), 13 VCCIO (power), 14 PWRCTL (in), 15 PWREN# (out), 16 TXDEN (out), 17 GND (power), 18 RI# (in), 19 DCD# (in), 20 DSR# (in), 21 DTR# (out), 22 CTS# (in), 23 RTS# (out), 24 RXD (in), 25 TXD (out), 26 VCC (power), 27 XTIN (in), 28 XTOUT (out), 29 AGND (power), 30 AVCC (power), 31 TEST (in), 32 EECS (io)

## ICL7660_SOIC8
designator U?  Type: ICL7660  Package: SOIC8  (hidden comment: ICL7660_SOIC8)
CONVERTISSEUR DE TENSION POSITIVE VERS NEGATIVE - SOIC8
footprint SOIC8_PAS=1.27_LARG=4_LONG=5 (Small Outline Integrated Circuit ; 8 Leads ; Body Width = 4 mm ; Pitch = 1.27 mm ; IPC Low Density)
pins: 1 BOOST, 2 CAP+, 3 GND, 4 CAP-, 5 VOUT, 6 LV, 7 OSC, 8 V+

## INA128P_DIP8
designator U?  Package: DIP8  Type: INA128P  (hidden comment: INA128P_DIP8)
AMPLIFICATEUR D'INSTRUMENTATION DE PRECISION - FAIBLE CONSO - DIP8
3D model DIP8 (DIP; 8 Leads; Row Spacing 7.62 mm; Pitch 2.54 mm)
simulation model INA128 (SUBCKT)
footprint DIP8_PAS=2.54_LARG=7.62_LONG=10.9 (Dual-In-Line Plastic Packages (PDIP) ; 8 Leads ; Row Spacing = 7.62 mm ; Pitch = 2.54 mm)
pins: 1 RG, 2 IN- (in), 3 IN+ (in), 4 -V (power), 5 REF, 6 OUT (out), 7 +V (power), 8 RG

## INA131AP_DIP8
designator U?  Type: INA131AP  Package: DIP8  (hidden comment: INA131AP_DIP8)
AMPLIFICATEUR D'INSTRUMENTATION DE PRECISION GAIN=100 - DIP8
footprint DIP8_PAS=2.54_LARG=7.62_LONG=10.9 (Dual-In-Line Plastic Packages (PDIP) ; 8 Leads ; Row Spacing = 7.62 mm ; Pitch = 2.54 mm)
pins: 1 RG1, 2 -VIN (in), 3 +VIN (in), 4 V-, 5 REF, 6 VOUT (out), 7 V+, 8 RG2

## L297/1_DIP20
designator U?  Type: L297/1  Package: DIP20  (hidden comment: L297/1_DIP20)
CONTROLEUR DE MOTEUR PAS A PAS - DIP20
3D model DIP20 (DIP; 20 Leads; Row Spacing 7.62 mm; Pitch 2.54 mm)
footprint DIP20_PAS=2.54_LARG=7.62_LONG=25.6 (Dual-In-Line Plastic Packages (PDIP) ; 20 Leads ; Row Spacing = 7.62 mm ; Pitch = 2.54 mm)
pins: 1 SYNC (out), 2 GND (power), 3 HOME (oc), 4 A (out), 5 ~{INH}1 (out), 6 B (out), 7 C (out), 8 ~{INH}2 (out), 9 D (out), 10 EN (in), 11 CTL (in), 12 VS (power), 13 SEN2 (in), 14 SEN1 (in), 15 VREF (in), 16 OSC, 17 CW/~{CCW} (in), 18 ~{CLK} (in), 19 HALF/~{FULL} (in), 20 ~{RST} (in)

## LM311N_DIP8
designator U?  Type: LM311N  Package: DIP8  (hidden comment: LM311N_DIP8)
COMPARATEUR DE TENSION - DIP8
3D model N08E (DIP; 8 Leads; Row Spacing 7.62 mm; Pitch 2.54 mm)
footprint DIP8_PAS=2.54_LARG=7.62_LONG=10.9 (Dual-In-Line Plastic Packages (PDIP) ; 8 Leads ; Row Spacing = 7.62 mm ; Pitch = 2.54 mm)
pins: 1 GND (power), 2 IN+ (in), 3 IN- (in), 4 V- (power), 5 BAL, 6 BAL/STB, 7 OUT (out), 8 V+ (power)

## LM324AN_DIP14
designator U?  Package: DIP14  Type: LM324AN  (hidden comment: LM324AN_DIP14)
QUADRUPLE AMPLIFICATEUR OPERATIONNEL - FAIBLE CONSOMMATION - DIP14
3D model 751A-02 (14-Pin Small Outline Integrated Circuit 1.27 mm Pitch)
footprint DIP14_PAS=2.54_LARG=7.62_LONG=19 (Dual-In-Line Plastic Packages (PDIP) ; 14 Leads ; Row Spacing = 7.62 mm ; Pitch = 2.54 mm)
pins on every part: 4 V+ (power), 11 V- (power)
part A pins: 1 OUT (out), 2 IN- (in), 3 IN+ (in)
part B pins: 5 IN+ (in), 6 IN- (in), 7 OUT (out)
part C pins: 8 OUT (out), 9 IN- (in), 10 IN+ (in)
part D pins: 12 IN+ (in), 13 IN- (in), 14 OUT (out)
part A text: A
part B text: B
part C text: C
part D text: D

## LM339AN_DIP14
designator U?  Package: DIP14  Type: LM339AN  (hidden comment: LM339AN_DIP14)
QUADRUPLE COMPARATEUR DE PRECISION - FAIBLE CONSOMMATION - DIP14
3D model 751A-02 (14-Pin Small Outline Integrated Circuit 1.27 mm Pitch)
footprint DIP14_PAS=2.54_LARG=7.62_LONG=19 (Dual-In-Line Plastic Packages (PDIP) ; 14 Leads ; Row Spacing = 7.62 mm ; Pitch = 2.54 mm)
pins on every part: 3 V+ (power), 12 GND (power)
part A pins: 2 OUT (oc), 4 IN- (in), 5 IN+ (in)
part B pins: 1 OUT (oc), 6 IN- (in), 7 IN+ (in)
part C pins: 8 IN- (in), 9 IN+ (in), 14 OUT (oc)
part D pins: 10 IN- (in), 11 IN+ (in), 13 OUT (oc)
part A text: A
part B text: B
part C text: C
part D text: D

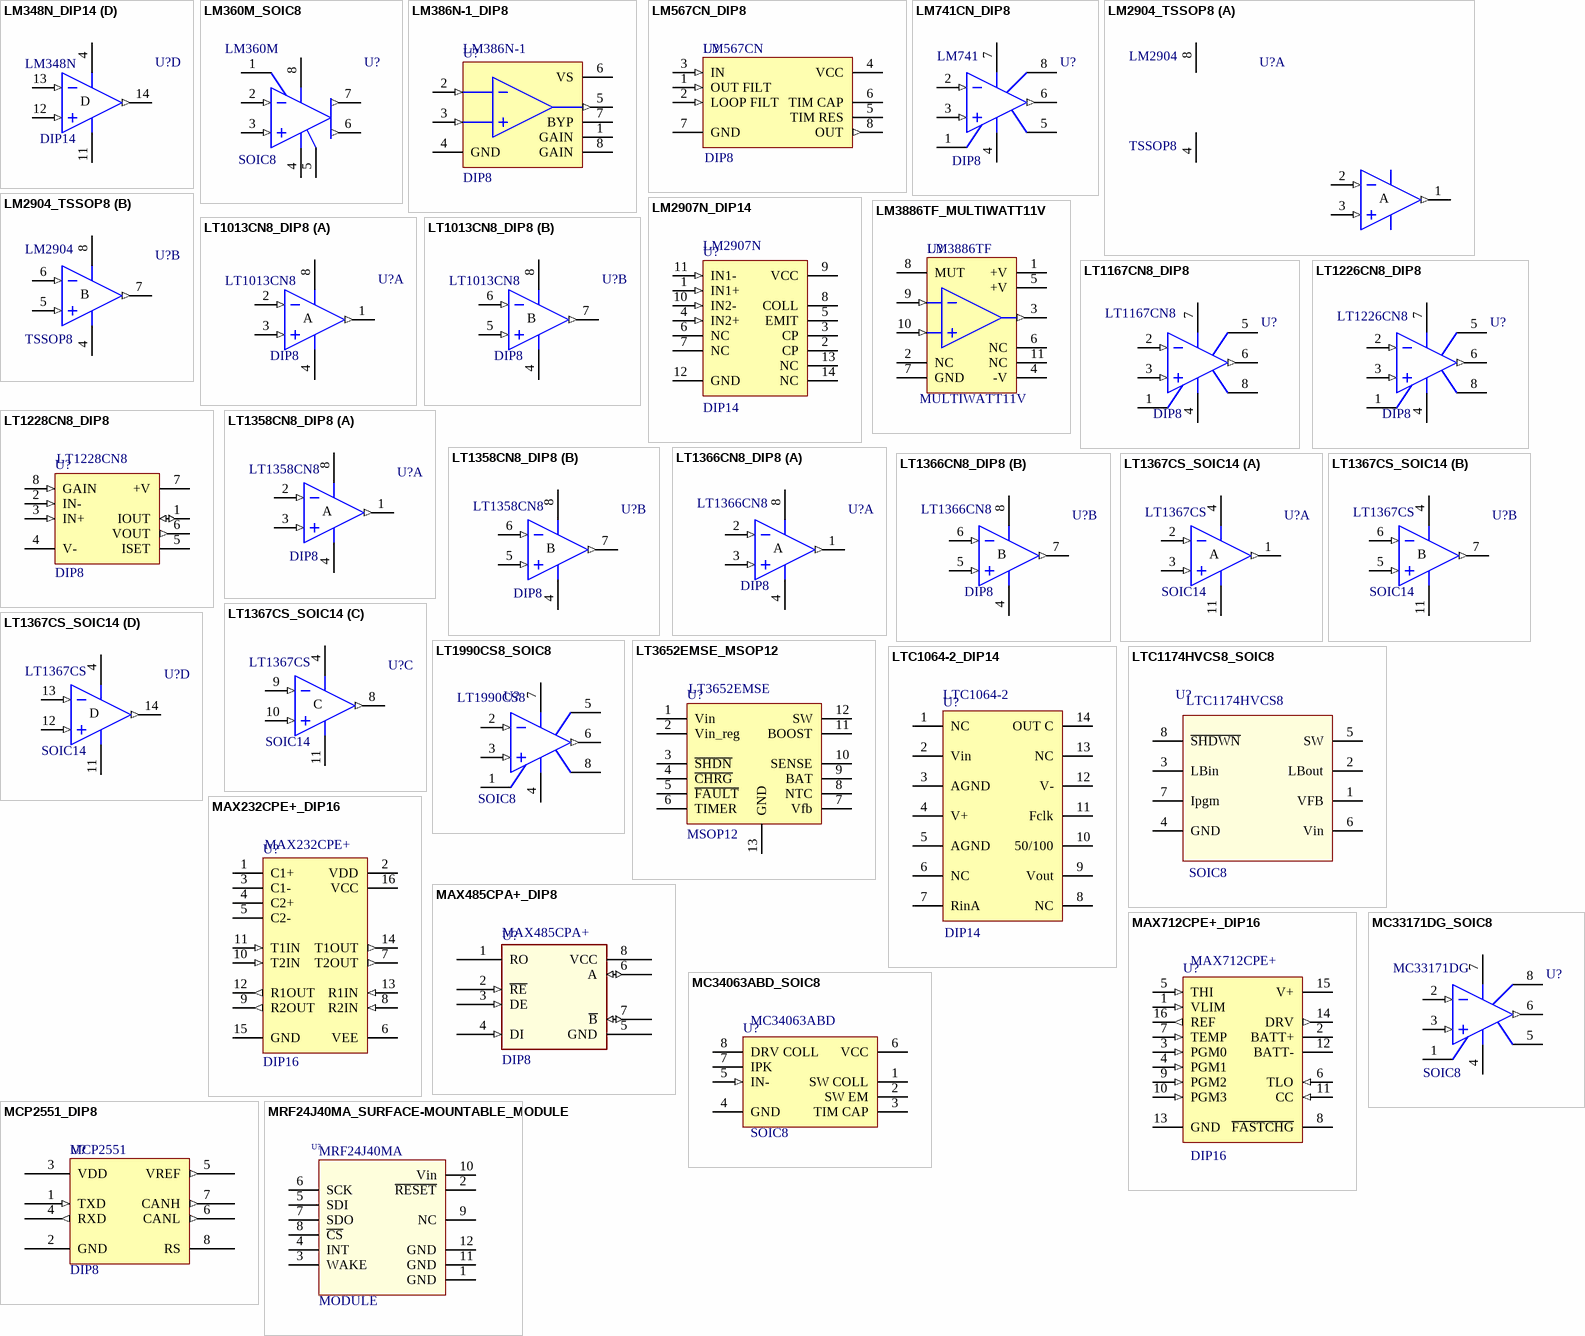
[diagram p3: symbols LM348N_DIP14 to MRF24J40MA_SURFACE-MOUNTABLE_MODULE]

## LM348N_DIP14
designator U?  Package: DIP14  Type: LM348N  (hidden comment: LM348N_DIP14)
QUADRUPLE AMPLIFICATEUR OPERATIONNEL - DIP14
3D model N014 (DIP; 14 Leads; Row Spacing 7.62 mm; Pitch 2.54 mm)
simulation model LM348 (SUBCKT)
footprint DIP14_PAS=2.54_LARG=7.62_LONG=19 (Dual-In-Line Plastic Packages (PDIP) ; 14 Leads ; Row Spacing = 7.62 mm ; Pitch = 2.54 mm)
pins on every part: 4 V+ (power), 11 V- (power)
part A pins: 1 OUT (out), 2 IN- (in), 3 IN+ (in)
part B pins: 5 IN+ (in), 6 IN- (in), 7 OUT (out)
part C pins: 8 OUT (out), 9 IN- (in), 10 IN+ (in)
part D pins: 12 IN+ (in), 13 IN- (in), 14 OUT (out)
part A text: A
part B text: B
part C text: C
part D text: D

## LM360M_SOIC8
designator U?  Type: LM360M  Package: SOIC8  (hidden comment: LM360M_SOIC8)
COMPARATEUR DIFFERENTIEL GRANDE VITESSE - SOIC8
3D model M08A (8-Pin Small Outline Integrated Circuit 1.27 mm Pitch)
footprint SOIC8_PAS=1.27_LARG=4_LONG=5 (Small Outline Integrated Circuit ; 8 Leads ; Body Width = 4 mm ; Pitch = 1.27 mm ; IPC Low Density)
pins: 1 NC, 2 IN- (in), 3 IN+ (in), 4 V- (power), 5 GND (power), 6 OUT2 (out), 7 OUT1 (out), 8 V+ (power)

## LM386N-1_DIP8
designator U?  Package: DIP8  Type: LM386N-1  (hidden comment: LM386N-1_DIP8)
AMPLIFICATEUR AUDIO FAIBLE PUISSANCE 0.25W - DIP8
3D model N08E (DIP; 8 Leads; Row Spacing 7.62 mm; Pitch 2.54 mm)
footprint DIP8_PAS=2.54_LARG=7.62_LONG=10.9 (Dual-In-Line Plastic Packages (PDIP) ; 8 Leads ; Row Spacing = 7.62 mm ; Pitch = 2.54 mm)
pins: 1 GAIN, 2 IN- (in), 3 IN+ (in), 4 GND (power), 5 OUT (out), 6 VS (power), 7 BYP, 8 GAIN

## LM567CN_DIP8
designator U?  Type: LM567CN  Package: DIP8  (hidden comment: LM567CN_DIP8)
DECODEUR DE TONALITE - DIP8
3D model M08A (8-Pin Small Outline Integrated Circuit 1.27 mm Pitch)
footprint DIP8_PAS=2.54_LARG=7.62_LONG=10.9 (Dual-In-Line Plastic Packages (PDIP) ; 8 Leads ; Row Spacing = 7.62 mm ; Pitch = 2.54 mm)
pins: 1 OUT FILT (in), 2 LOOP FILT (in), 3 IN (in), 4 VCC (power), 5 TIM RES, 6 TIM CAP, 7 GND (power), 8 OUT (out)

## LM741CN_DIP8
designator U?  Package: DIP8  Type: LM741  (hidden comment: LM741CN_DIP8)
AMPLIFICATEUR OPERATIONNEL GENERAL COMPENSE - DIP8
3D model N08E (DIP; 8 Leads; Row Spacing 7.62 mm; Pitch 2.54 mm)
simulation model LM741_NSC (SUBCKT)
footprint DIP8_PAS=2.54_LARG=7.62_LONG=10.9 (Dual-In-Line Plastic Packages (PDIP) ; 8 Leads ; Row Spacing = 7.62 mm ; Pitch = 2.54 mm)
pins: 1 OS NULL, 2 IN- (in), 3 IN+ (in), 4 V- (power), 5 OS NULL, 6 OUT (out), 7 V+ (power), 8 NC

## LM2904_TSSOP8
designator U?  Type: LM2904  Package: TSSOP8  (hidden comment: LM2904_TSSOP8)
AMPLIFICATEUR OPERATIONNEL DOUBLE FAIBLE PUISSANCE - TSSOP8
footprint TSSOP8_PAS=0.65_LARG=6.4_LONG=3 (Thin Shrink Small Outline Plastic Packages ; 8 Leads ; Body Width = 4.4 mm; Pitch = 0.65 mm)
pins on every part: 4 V- (power), 8 V+ (power)
part A pins: 1 OUT (out), 2 IN- (in), 3 IN+ (in)
part B pins: 5 IN+ (in), 6 IN- (in), 7 OUT (out)
part A text: A
part B text: B

## LM2907N_DIP14
designator U?  Type: LM2907N  Package: DIP14  (hidden comment: LM2907N_DIP14)
CONVERTISSEUR FREQUENCE/TENSION - DIP14
3D model N14A (DIP; 14 Leads; Row Spacing 7.62 mm; Pitch 2.54 mm)
footprint DIP14_PAS=2.54_LARG=7.62_LONG=19 (Dual-In-Line Plastic Packages (PDIP) ; 14 Leads ; Row Spacing = 7.62 mm ; Pitch = 2.54 mm)
pins: 1 IN1+ (in), 2 CP, 3 CP, 4 IN2+ (in), 5 EMIT (oe), 6 NC, 7 NC, 8 COLL (oc), 9 VCC (power), 10 IN2- (in), 11 IN1- (in), 12 GND (power), 13 NC, 14 NC

## LM3886TF_MULTIWATT11V
designator U?  Type: LM3886TF  Package: MULTIWATT11V  (hidden comment: LM3886TF_MULTIWATT11V)
AMPLIFIATEUR AUDIO PUISSANCE 68W AVEC MUTE - MULTIWATT11V
footprint MULTIWATT11V_PAS=1.7_LARG=20.2_LONG=9.6 (TO , Thru-Hole , Vertical , Heatsink Mounted ; 11 Bent Staggered Leads ; Pitch = 1.7 mm ; Row Spacing = 5 mm)
pins: 1 +V (power), 2 NC, 3 OUT (out), 4 -V (power), 5 +V (power), 6 NC, 7 GND (power), 8 MUT, 9 IN- (in), 10 IN+ (in), 11 NC

## LT1013CN8_DIP8
designator U?  Package: DIP8  Type: LT1013CN8  (hidden comment: LT1013CN8_DIP8)
DOUBLE AMPLIFICATEUR OPERATIONNEL DE PRECISION - DIP8
3D model N8 (DIP, Plastic; 8 Leads; Row Spacing 7.62 mm; Pitch 2.54 mm)
simulation model LT1013 (SUBCKT)
footprint DIP8_PAS=2.54_LARG=7.62_LONG=10.9 (Dual-In-Line Plastic Packages (PDIP) ; 8 Leads ; Row Spacing = 7.62 mm ; Pitch = 2.54 mm)
pins on every part: 4 V- (power), 8 V+ (power)
part A pins: 1 OUT (out), 2 IN- (in), 3 IN+ (in)
part B pins: 5 IN+ (in), 6 IN- (in), 7 OUT (out)
part A text: A
part B text: B

## LT1167CN8_DIP8
designator U?  Package: DIP8  Type: LT1167CN8  (hidden comment: LT1167CN8_DIP8)
AMPLIFICATEUR D'INSTRUMENTATION DE PRECISION - GAIN PROGRAMMABLE - DIP8
footprint DIP8_PAS=2.54_LARG=7.62_LONG=10.9 (Dual-In-Line Plastic Packages (PDIP) ; 8 Leads ; Row Spacing = 7.62 mm ; Pitch = 2.54 mm)
pins: 1 Rg, 2 IN- (in), 3 IN+ (in), 4 V- (power), 5 REF, 6 OUT (out), 7 V+ (power), 8 Rg

## LT1226CN8_DIP8
designator U?  Package: DIP8  Type: LT1226CN8  (hidden comment: LT1226CN8_DIP8)
AMPLIFICATEUR OPERATIONNEL TRES RAPIDE FAIBLE BRUIT - DIP8
3D model N8 (DIP, Plastic; 8 Leads; Row Spacing 7.62 mm; Pitch 2.54 mm)
simulation model LT1226 (SUBCKT)
footprint DIP8_PAS=2.54_LARG=7.62_LONG=10.9 (Dual-In-Line Plastic Packages (PDIP) ; 8 Leads ; Row Spacing = 7.62 mm ; Pitch = 2.54 mm)
pins: 1 NULL1, 2 IN- (in), 3 IN+ (in), 4 V- (power), 5 NC, 6 OUT (out), 7 V+ (power), 8 NULL2

## LT1228CN8_DIP8
designator U?  Package: DIP8  Type: LT1228CN8  (hidden comment: LT1228CN8_DIP8)
AMPLIFICATEUR OPERATIONNEL RETOUR DE COURANT - DIP8
3D model N8 (DIP, Plastic; 8 Leads; Row Spacing 7.62 mm; Pitch 2.54 mm)
simulation model LT1228 (SUBCKT)
footprint DIP8_PAS=2.54_LARG=7.62_LONG=10.9 (Dual-In-Line Plastic Packages (PDIP) ; 8 Leads ; Row Spacing = 7.62 mm ; Pitch = 2.54 mm)
pins: 1 IOUT (io), 2 IN- (in), 3 IN+ (in), 4 V- (power), 5 ISET, 6 VOUT (out), 7 +V (power), 8 GAIN (in)

## LT1358CN8_DIP8
designator U?  Package: DIP8  Type: LT1358CN8  (hidden comment: LT1358CN8_DIP8)
DOUBLE AMPLIFICATEUR OPERATIONNEL - BANDE PASSANTE DE 25MHz - 600V/µs SLEW RATE - DIP8
footprint DIP8_PAS=2.54_LARG=7.62_LONG=10.9 (Dual-In-Line Plastic Packages (PDIP) ; 8 Leads ; Row Spacing = 7.62 mm ; Pitch = 2.54 mm)
pins on every part: 4 V- (power), 8 V+ (power)
part A pins: 1 OUT (out), 2 IN- (in), 3 IN+ (in)
part B pins: 5 IN+ (in), 6 IN- (in), 7 OUT (out)
part A text: A
part B text: B

## LT1366CN8_DIP8
designator U?  Package: DIP8  Type: LT1366CN8  (hidden comment: LT1366CN8_DIP8)
DOUBLE AMPLIFICATEUR OPERATIONNEL DE PRECISION RAIL TO RAIL - DIP8
footprint DIP8_PAS=2.54_LARG=7.62_LONG=10.9 (Dual-In-Line Plastic Packages (PDIP) ; 8 Leads ; Row Spacing = 7.62 mm ; Pitch = 2.54 mm)
pins on every part: 4 V- (power), 8 V+ (power)
part A pins: 1 OUT (out), 2 IN- (in), 3 IN+ (in)
part B pins: 5 IN+ (in), 6 IN- (in), 7 OUT (out)
part A text: A
part B text: B

## LT1367CS_SOIC14
designator U?  Package: SOIC14  Type: LT1367CS  (hidden comment: LT1367CS_SOIC14)
QUADRUPLE AMPLIFICATEUR OPERATIONNEL DE PRECISION - SOIC14
footprint SOIC14_PAS=1.27_LARG=6.2_LONG=8.71 (Small Outline Integrated Circuit ; 14 Leads ; Body Width = 4 mm ; Pitch = 1.27 mm ; IPC Low Density)
pins on every part: 4 V+ (power), 11 V- (power)
part A pins: 1 OUT (out), 2 IN- (in), 3 IN+ (in)
part B pins: 5 IN+ (in), 6 IN- (in), 7 OUT (out)
part C pins: 8 OUT (out), 9 IN- (in), 10 IN+ (in)
part D pins: 12 IN+ (in), 13 IN- (in), 14 OUT (out)
part A text: A
part B text: B
part C text: C
part D text: D

## LT1990CS8_SOIC8
designator U?  Package: SOIC8  Type: LT1990CS8  (hidden comment: LT1990CS8_SOIC8)
AMPLIFICATEUR OPERATIONNEL DIFFERENTIEL DE PRECISION - GAIN 1/10 - SOIC8
footprint SOIC8_PAS=1.27_LARG=4_LONG=5 (Small Outline Integrated Circuit ; 8 Leads ; Body Width = 4 mm ; Pitch = 1.27 mm ; IPC Low Density)
pins: 1 REF, 2 IN- (in), 3 IN+ (in), 4 V- (power), 5 GAIN2, 6 OUT (out), 7 V+ (power), 8 GAIN1

## LT3652EMSE_MSOP12
designator U?  Package: MSOP12  Type: LT3652EMSE  (hidden comment: LT3652EMSE_MSOP12)
CHARGEUR DE BATTERIE - APPLICATION SOLAIRE - MSOP12
footprint MSOP12_PAS=0.65_LARG=4.9_LONG=4 (Mini Small Outline Plastic Packages ; 12 Leads ; Body Width = 3 mm ; Pitch = 0.65 mm)
pins: 1 Vin, 2 Vin_reg, 3 ~{SHDN}, 4 ~{CHRG}, 5 ~{FAULT}, 6 TIMER, 7 Vfb, 8 NTC, 9 BAT, 10 SENSE (power), 11 BOOST, 12 SW, 13 GND

## LTC1064-2_DIP14
designator U?  Package: DIP14  Type: LTC1064-2  (hidden comment: LTC1064-2_DIP14)
FILTRE PASSE-BAS BUTTERWORTH 8e ORDRE - FAIBLE BRUIT HAUTE FREQUENCE - DIP14
footprint DIP14_PAS=2.54_LARG=7.62_LONG=19 (Dual-In-Line Plastic Packages (PDIP) ; 14 Leads ; Row Spacing = 7.62 mm ; Pitch = 2.54 mm)
pins: 1 NC, 2 Vin, 3 AGND, 4 V+, 5 AGND, 6 NC, 7 RinA, 8 NC, 9 Vout, 10 50/100, 11 Fclk, 12 V-, 13 NC, 14 OUT C

## LTC1174HVCS8_SOIC8
designator U?  Package: SOIC8  Type: LTC1174HVCS8  (hidden comment: LTC1174HVCS8_SOIC8)
CONVERTISSEUR DC/DC - SOIC8
footprint SOIC8_PAS=1.27_LARG=4_LONG=5 (Small Outline Integrated Circuit ; 8 Leads ; Body Width = 4 mm ; Pitch = 1.27 mm ; IPC Low Density)
pins: 1 VFB, 2 LBout, 3 LBin, 4 GND, 5 SW, 6 Vin, 7 Ipgm, 8 ~{SHDWN}

## MAX232CPE+_DIP16
designator U?  Package: DIP16  Type: MAX232CPE+  (hidden comment: MAX232CPE+_DIP16)
RECEPTEUR/EMETTEUR POUR LIAISON RS232 - DIP16
3D model PE16 (DIP; 16 Leads; Row Spacing 7.62 mm; Pitch 2.54 mm)
footprint DIP16_PAS=2.54_LARG=7.62_LONG=21.6 (Dual-In-Line Plastic Packages (PDIP) ; 16 Leads ; Row Spacing = 7.62 mm ; Pitch = 2.54 mm)
pins: 1 C1+, 2 VDD (power), 3 C1-, 4 C2+, 5 C2-, 6 VEE (power), 7 T2OUT (out), 8 R2IN (in), 9 R2OUT (out), 10 T2IN (in), 11 T1IN (in), 12 R1OUT (out), 13 R1IN (in), 14 T1OUT (out), 15 GND (power), 16 VCC (power)

## MAX485CPA+_DIP8
designator U?  Type: MAX485CPA+  Package: DIP8  (hidden comment: MAX485CPA+_DIP8)
EMETTEUR/RECEPTEUR FAIBLE PUISSANCE DE LIAISONS RS422/RS485 - DIP8
footprint DIP8_PAS=2.54_LARG=7.62_LONG=10.9 (Dual-In-Line Plastic Packages (PDIP) ; 8 Leads ; Row Spacing = 7.62 mm ; Pitch = 2.54 mm)
pins: 1 RO (hiz), 2 ~{RE} (in), 3 DE (in), 4 DI (in), 5 GND, 6 A (io), 7 ~{B} (io), 8 VCC

## MAX712CPE+_DIP16
designator U?  Package: DIP16  Type: MAX712CPE+  (hidden comment: MAX712CPE+_DIP16)
CONTROLEUR DE CHARGE DE BATTERIE NiCd/NiMH - DIP16
3D model PE16 (DIP; 16 Leads; Row Spacing 7.62 mm; Pitch 2.54 mm)
footprint DIP16_PAS=2.54_LARG=7.62_LONG=21.6 (Dual-In-Line Plastic Packages (PDIP) ; 16 Leads ; Row Spacing = 7.62 mm ; Pitch = 2.54 mm)
pins: 1 VLIM (in), 2 BATT+ (power), 3 PGM0 (in), 4 PGM1 (in), 5 THI (in), 6 TLO (in), 7 TEMP (in), 8 ~{FASTCHG} (oc), 9 PGM2 (in), 10 PGM3 (in), 11 CC (in), 12 BATT- (power), 13 GND (power), 14 DRV (out), 15 V+ (power), 16 REF (out)

## MC33171DG_SOIC8
designator U?  Type: MC33171DG  Package: SOIC8  (hidden comment: MC33171DG_SOIC8)
AMPLIFICATEUR OPERATIONNEL FAIBLE PUISSANCE - SOIC8
footprint SOIC8_PAS=1.27_LARG=4_LONG=5 (Small Outline Integrated Circuit ; 8 Leads ; Body Width = 4 mm ; Pitch = 1.27 mm ; IPC Low Density)
pins: 1 OFFSET NULL, 2 IN- (in), 3 IN+ (in), 4 V- (power), 5 OFFSET NULL, 6 OUT (out), 7 V+ (power), 8 NC

## MC34063ABD_SOIC8
designator U?  Package: SOIC8  Type: MC34063ABD  (hidden comment: MC34063ABD_SOIC8)
CIRCUIT DE CONTROL DE CONVERSION DC/DC - SOIC8
footprint SOIC8_PAS=1.27_LARG=4_LONG=5 (Small Outline Integrated Circuit ; 8 Leads ; Body Width = 4 mm ; Pitch = 1.27 mm ; IPC Low Density)
pins: 1 SW COLL, 2 SW EM, 3 TIM CAP, 4 GND (power), 5 IN- (in), 6 VCC (power), 7 IPK, 8 DRV COLL (oc)

## MCP2551_DIP8
designator U?  Type: MCP2551  Package: DIP8  (hidden comment: MCP2551_DIP8)
EMETTEUR/RECEPTEUR CAN GRANDE VITESSE - DIP8
footprint DIP8_PAS=2.54_LARG=7.62_LONG=10.9 (Dual-In-Line Plastic Packages (PDIP) ; 8 Leads ; Row Spacing = 7.62 mm ; Pitch = 2.54 mm)
pins: 1 TXD (in) "Screw Terminal", 2 GND (power), 3 VDD (power) "Positive Supply 4.5V to 5.5V", 4 RXD (out) "Receive Data", 5 VREF (out) "Reference Voltage", 6 CANL (out) "CAN Bus Low Line", 7 CANH (out) "CAN Bus High Line", 8 RS "Mode/Slope Setting"

## MRF24J40MA_SURFACE-MOUNTABLE_MODULE
designator U?  Package: MODULE  Type: MRF24J40MA  (hidden comment: MRF24J40MA_SURFACE-MOUNTABLE_MODULE)
MODULE TRANSCEIVER RF - SURFACE_MOUNTABLE - 2.4GHz IEEE Std. 802.15.4
footprint MRF24J40MA_MODULE
pins: 1 GND, 2 ~{RESET}, 3 WAKE, 4 INT, 5 SDI, 6 SCK, 7 SDO, 8 ~{CS}, 9 NC, 10 Vin, 11 GND, 12 GND

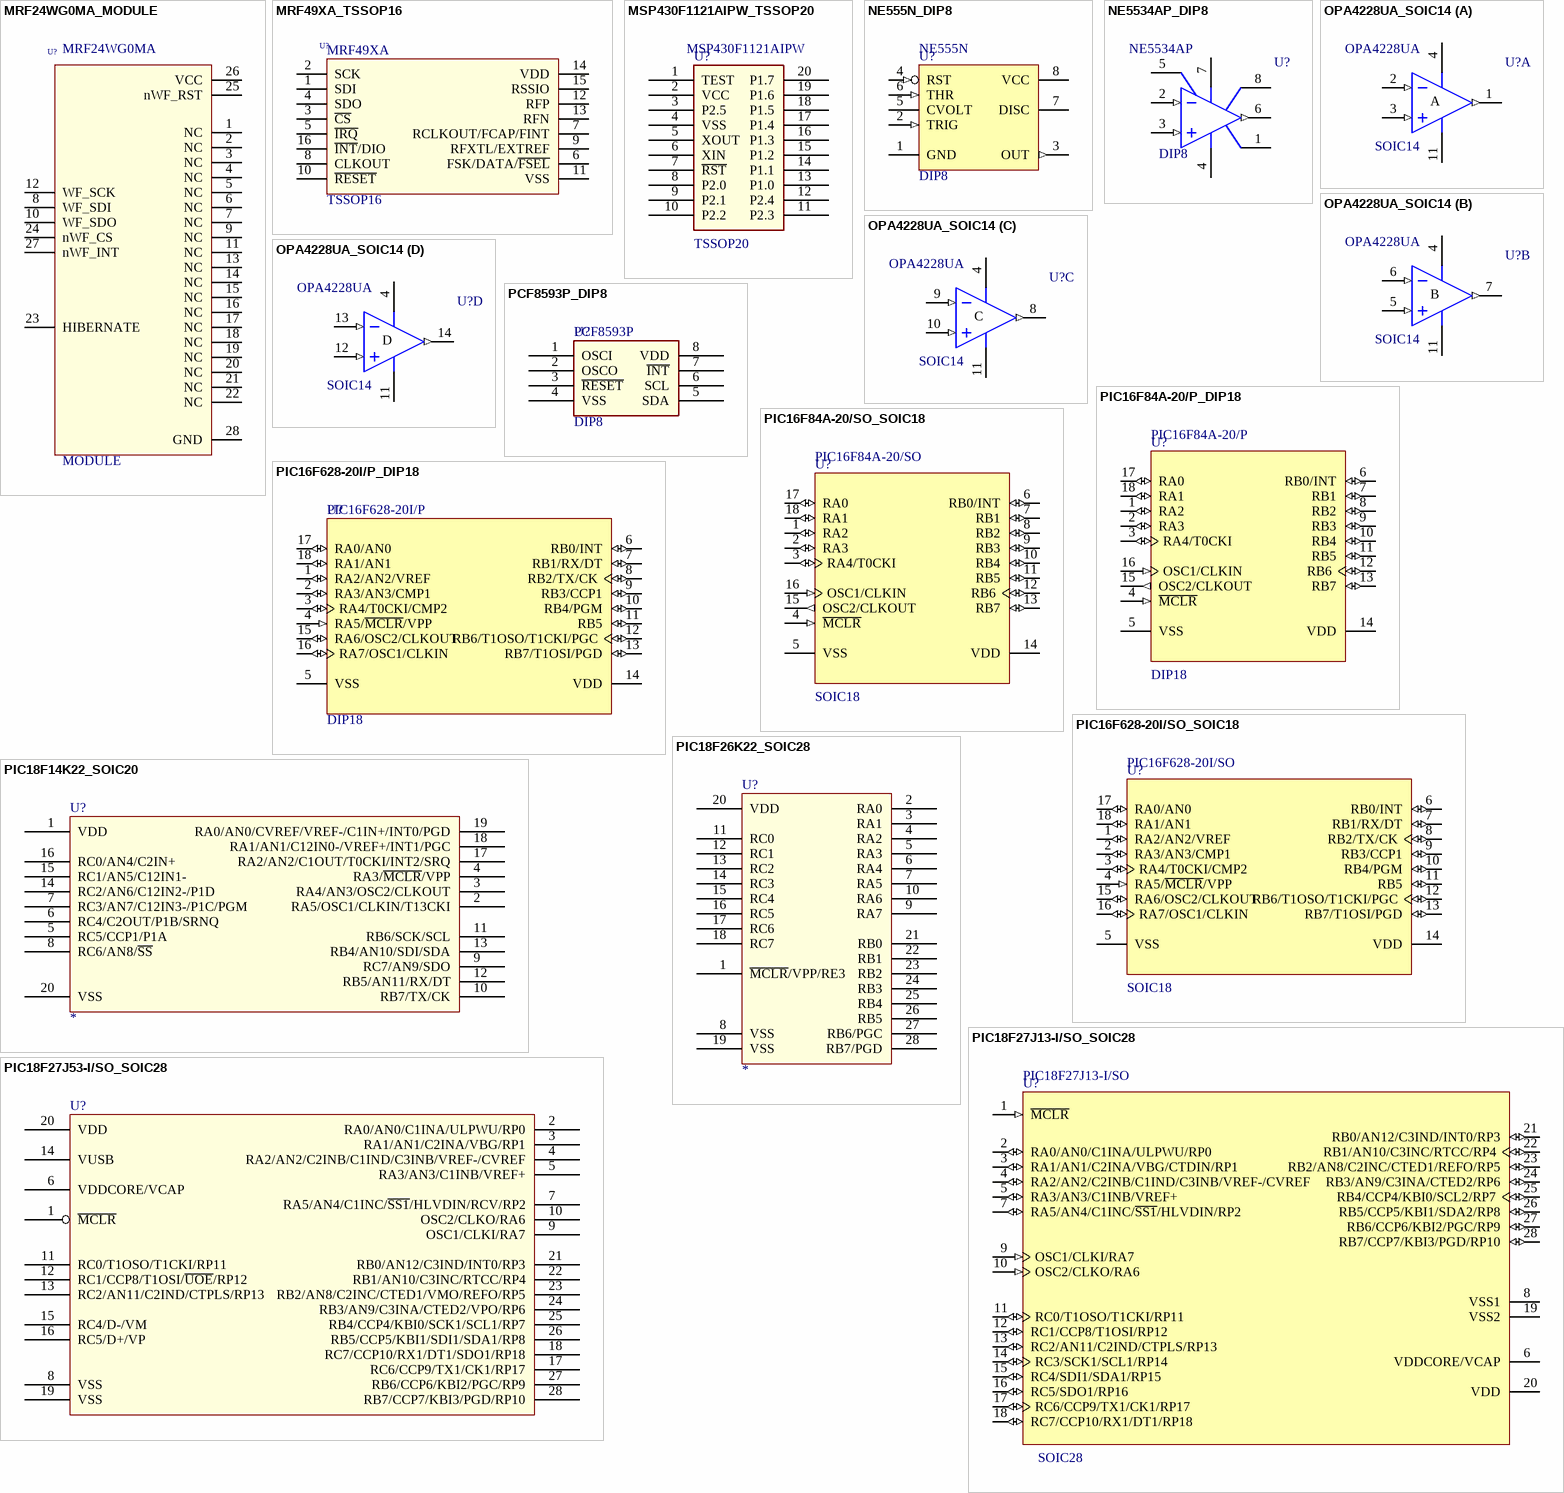
[diagram p4: symbols MRF24WG0MA_MODULE to PIC18F27J53-I/SO_SOIC28]

## MRF24WG0MA_MODULE
designator U?  Package: MODULE  Type: MRF24WG0MA  (hidden comment: MRF24WG0MA_MODULE)
DAUGHTER BOARD FOR EVALUATING WI-FI CONNECTIVITY
pins: 1 NC, 2 NC, 3 NC, 4 NC, 5 NC, 6 NC, 7 NC, 8 WF_SDI, 9 NC, 10 WF_SDO, 11 NC, 12 WF_SCK, 13 NC, 14 NC, 15 NC, 16 NC, 17 NC, 18 NC, 19 NC, 20 NC, 21 NC, 22 NC, 23 HIBERNATE, 24 nWF_CS, 25 nWF_RST, 26 VCC, 27 nWF_INT, 28 GND

## MRF49XA_TSSOP16
designator U?  Package: TSSOP16  Type: MRF49XA  (hidden comment: MRF49XA_TSSOP16)
TRANSCEIVER RF 433/868/915 - TSSOP16
footprint TSSOP16_PAS=0.65_LARG=6.4_LONG=5 (Thin Shrink Small Outline Plastic Packages ; 16 Leads ; Body Width = 4.4 mm ; Pitch = 0.65 mm)
pins: 1 SDI, 2 SCK, 3 ~{CS}, 4 SDO, 5 ~{IRQ}, 6 FSK/DATA/~{FSEL}, 7 RCLKOUT/FCAP/FINT, 8 CLKOUT, 9 RFXTL/EXTREF, 10 ~{RESET}, 11 VSS, 12 RFP, 13 RFN, 14 VDD, 15 RSSIO, 16 ~{INT}/DIO

## MSP430F1121AIPW_TSSOP20
designator U?  Type: MSP430F1121AIPW  Package: TSSOP20  (hidden comment: MSP430F1121AIPW_TSSOP20)
MICROCONTROLEUR FLASH - 16BITS - TSSOP20
footprint TSSOP20_PAS=0.65_LARG=6.4_LONG=6.5 (Thin Shrink Small Outline Plastic Packages ; 20 Leads ; Body Width = 4.4 mm ; Pitch = 0.65 mm)
pins: 1 TEST, 2 VCC, 3 P2.5, 4 VSS, 5 XOUT, 6 XIN, 7 ~{RST}, 8 P2.0, 9 P2.1, 10 P2.2, 11 P2.3, 12 P2.4, 13 P1.0, 14 P1.1, 15 P1.2, 16 P1.3, 17 P1.4, 18 P1.5, 19 P1.6, 20 P1.7

## NE555N_DIP8
designator U?  Package: DIP8  Type: NE555N  (hidden comment: NE555N_DIP8)
TIMER DE PRECISION - FONCTIONNEMENTS ASTABLE/MONOSTABLE - DIP8
3D model D008 (8-Pin Small Outline Integrated Circuit 1.27 mm Pitch)
footprint DIP8_PAS=2.54_LARG=7.62_LONG=10.9 (Dual-In-Line Plastic Packages (PDIP) ; 8 Leads ; Row Spacing = 7.62 mm ; Pitch = 2.54 mm)
pins: 1 GND (power), 2 TRIG (in), 3 OUT (out), 4 RST (in), 5 CVOLT, 6 THR (in), 7 DISC (oc), 8 VCC (power)

## NE5534AP_DIP8
designator U?  Package: DIP8  Type: NE5534AP  (hidden comment: NE5534AP_DIP8)
AMPLIFICATEUR OPERATIONNEL FAIBLE BRUIT - DIP8
3D model D014 (14-Pin Small Outline Integrated Circuit 1.27 mm Pitch)
footprint DIP8_PAS=2.54_LARG=7.62_LONG=10.9 (Dual-In-Line Plastic Packages (PDIP) ; 8 Leads ; Row Spacing = 7.62 mm ; Pitch = 2.54 mm)
pins: 1 BAL, 2 IN- (in), 3 IN+ (in), 4 V- (power), 5 CMPEN, 6 OUT (out), 7 V+ (power), 8 COMP/BAL

## OPA4228UA_SOIC14
designator U?  Package: SOIC14  Type: OPA4228UA  (hidden comment: OPA4228UA_SOIC14)
QUADRUPLE AMPLIFICATEUR OPERATIONNEL DE PRECISION FAIBLE BRUIT - SOIC14
3D model N014 (DIP; 14 Leads; Row Spacing 7.62 mm; Pitch 2.54 mm)
simulation model LM348 (SUBCKT)
footprint SOIC14_PAS=1.27_LARG=6.2_LONG=8.71 (Small Outline Integrated Circuit ; 14 Leads ; Body Width = 4 mm ; Pitch = 1.27 mm ; IPC Low Density)
pins on every part: 4 V+ (power), 11 V- (power)
part A pins: 1 OUT (out), 2 IN- (in), 3 IN+ (in)
part B pins: 5 IN+ (in), 6 IN- (in), 7 OUT (out)
part C pins: 8 OUT (out), 9 IN- (in), 10 IN+ (in)
part D pins: 12 IN+ (in), 13 IN- (in), 14 OUT (out)
part A text: A
part B text: B
part C text: C
part D text: D

## PCF8593P_DIP8
designator U?  Type: PCF8593P  Package: DIP8  (hidden comment: PCF8593P_DIP8)
HORLOGE TEMPS REEL/CALENDRIER - DIP8
footprint DIP8_PAS=2.54_LARG=7.62_LONG=10.9 (Dual-In-Line Plastic Packages (PDIP) ; 8 Leads ; Row Spacing = 7.62 mm ; Pitch = 2.54 mm)
pins: 1 OSCI, 2 OSCO, 3 ~{RESET}, 4 VSS, 5 SDA, 6 SCL, 7 ~{INT}, 8 VDD

## PIC16F84A-20/P_DIP18
designator U?  Package: DIP18  Type: PIC16F84A-20/P  (hidden comment: PIC16F84A-20/P_DIP18)
MICROCONTROLEUR 8 BITS - 13 I/O - 14 BITS : 1 INSTRUCTION - 1 KMOTS : MEMOIRE PROG - 1 TIMER - 64 OCTETS : EEPROM - 68 OCTETS : RAM - 20MHz : HORLOGE - DIP18
3D model PDIP300-18 (DIP, Plastic; 18 Leads; Row Spacing 7.62 mm; Pitch 2.54 mm)
footprint DIP8_PAS=2.54_LARG=7.62_LONG=10.9 (Dual-In-Line Plastic Packages (PDIP) ; 8 Leads ; Row Spacing = 7.62 mm ; Pitch = 2.54 mm)
pins: 1 RA2 (io), 2 RA3 (io), 3 RA4/T0CKI (io), 4 ~{MCLR} (in), 5 VSS (power), 6 RB0/INT (io), 7 RB1 (io), 8 RB2 (io), 9 RB3 (io), 10 RB4 (io), 11 RB5 (io), 12 RB6 (io), 13 RB7 (io), 14 VDD (power), 15 OSC2/CLKOUT (out), 16 OSC1/CLKIN (in), 17 RA0 (io), 18 RA1 (io)

## PIC16F84A-20/SO_SOIC18
designator U?  Package: SOIC18  Type: PIC16F84A-20/SO  (hidden comment: PIC16F84A-20/SO_SOIC18)
MICROCONTROLEUR 8 BITS - 13 I/O - 14 BITS : 1 INSTRUCTION - 1 KMOTS : MEMOIRE PROG - 1 TIMER - 64 OCTETS : EEPROM - 68 OCTETS : RAM - 20MHz : HORLOGE - SOIC18
3D model SOIC300-18 (18-Pin Small Outline Integrated Circuit 1.27 mm Pitch)
footprint SOIC18_PAS=1.27_LARG=10.3_LONG=11.5 (Small Outline Integrated Circuit ; 18 Leads ; Body 11.5 mm x 7.6 mm ; Pitch = 1.27mm ; IPC Low Density)
pins: 1 RA2 (io), 2 RA3 (io), 3 RA4/T0CKI (io), 4 ~{MCLR} (in), 5 VSS (power), 6 RB0/INT (io), 7 RB1 (io), 8 RB2 (io), 9 RB3 (io), 10 RB4 (io), 11 RB5 (io), 12 RB6 (io), 13 RB7 (io), 14 VDD (power), 15 OSC2/CLKOUT (out), 16 OSC1/CLKIN (in), 17 RA0 (io), 18 RA1 (io)

## PIC16F628-20I/P_DIP18
designator U?  Package: DIP18  Type: PIC16F628-20I/P  (hidden comment: PIC16F628-20I/P_DIP18)
MICROCONTROLEUR 8 BITS - 16 I/O - 2048 x 14 : FLASH - 2 KMOTS : MEMOIRE PROG - 3 TIMERS - 128 OCTETS : EEPROM - 224 OCTETS : RAM - 20MHz : HORLOGE - DIP18
3D model PDIP300-18 (DIP, Plastic; 18 Leads; Row Spacing 7.62 mm; Pitch 2.54 mm)
footprint DIP18_PAS=2.54_LARG=7.62_LONG=23 (Dual-In-Line Plastic Packages (PDIP) ; 18 Leads ; Row Spacing = 7.62 mm ; Pitch = 2.54 mm)
pins: 1 RA2/AN2/VREF (io), 2 RA3/AN3/CMP1 (io), 3 RA4/T0CKI/CMP2 (io), 4 RA5/~{MCLR}/VPP (in), 5 VSS (power), 6 RB0/INT (io), 7 RB1/RX/DT (io), 8 RB2/TX/CK (io), 9 RB3/CCP1 (io), 10 RB4/PGM (io), 11 RB5 (io), 12 RB6/T1OSO/T1CKI/PGC (io), 13 RB7/T1OSI/PGD (io), 14 VDD (power), 15 RA6/OSC2/CLKOUT (io), 16 RA7/OSC1/CLKIN (io), 17 RA0/AN0 (io), 18 RA1/AN1 (io)

## PIC16F628-20I/SO_SOIC18
designator U?  Package: SOIC18  Type: PIC16F628-20I/SO  (hidden comment: PIC16F628-20I/SO_SOIC18)
MICROCONTROLEUR 8 BITS - 16 I/O - 2048 x 14 : FLASH - 2 KMOTS : MEMOIRE PROG - 3 TIMERS - 128 OCTETS : EEPROM - 224 OCTETS : RAM - 20MHz : HORLOGE - SOIC18
3D model SOIC300-18 (18-Pin Small Outline Integrated Circuit 1.27 mm Pitch)
footprint SOIC18_PAS=1.27_LARG=10.3_LONG=11.5 (Small Outline Integrated Circuit ; 18 Leads ; Body 11.5 mm x 7.6 mm ; Pitch = 1.27mm ; IPC Low Density)
pins: 1 RA2/AN2/VREF (io), 2 RA3/AN3/CMP1 (io), 3 RA4/T0CKI/CMP2 (io), 4 RA5/~{MCLR}/VPP (in), 5 VSS (power), 6 RB0/INT (io), 7 RB1/RX/DT (io), 8 RB2/TX/CK (io), 9 RB3/CCP1 (io), 10 RB4/PGM (io), 11 RB5 (io), 12 RB6/T1OSO/T1CKI/PGC (io), 13 RB7/T1OSI/PGD (io), 14 VDD (power), 15 RA6/OSC2/CLKOUT (io), 16 RA7/OSC1/CLKIN (io), 17 RA0/AN0 (io), 18 RA1/AN1 (io)

## PIC18F14K22_SOIC20
designator U?
footprint SOIC20_PAS=1.27_LARG=10.3_LONG=12.8 (Small Outline Integrated Circuit ; 20 Leads ; Body Width = 7.6 mm ; Pitch = 1.27mm ; IPC Low Density)
pins: 1 VDD, 2 RA5/OSC1/CLKIN/T13CKI, 3 RA4/AN3/OSC2/CLKOUT, 4 RA3/~{MCLR}/VPP, 5 RC5/CCP1/P1A, 6 RC4/C2OUT/P1B/SRNQ, 7 RC3/AN7/C12IN3-/P1C/PGM, 8 RC6/AN8/~{SS}, 9 RC7/AN9/SDO, 10 RB7/TX/CK, 11 RB6/SCK/SCL, 12 RB5/AN11/RX/DT, 13 RB4/AN10/SDI/SDA, 14 RC2/AN6/C12IN2-/P1D, 15 RC1/AN5/C12IN1-, 16 RC0/AN4/C2IN+, 17 RA2/AN2/C1OUT/T0CKI/INT2/SRQ, 18 RA1/AN1/C12IN0-/VREF+/INT1/PGC, 19 RA0/AN0/CVREF/VREF-/C1IN+/INT0/PGD, 20 VSS

## PIC18F26K22_SOIC28
designator U?
footprint SOIC28_PAS=1.27_LARG=10.3_LONG=18 (28-Pin Plastic Small Outline Integrated Circuit ; 28 Leads ; Body Width = 7.5 mm ; Pitch = 1.27 mm ; IPC Low Density)
pins: 1 ~{MCLR}/VPP/RE3, 2 RA0, 3 RA1, 4 RA2, 5 RA3, 6 RA4, 7 RA5, 8 VSS, 9 RA7, 10 RA6, 11 RC0, 12 RC1, 13 RC2, 14 RC3, 15 RC4, 16 RC5, 17 RC6, 18 RC7, 19 VSS, 20 VDD, 21 RB0, 22 RB1, 23 RB2, 24 RB3, 25 RB4, 26 RB5, 27 RB6/PGC, 28 RB7/PGD

## PIC18F27J13-I/SO_SOIC28
designator U?  Package: SOIC28  Type: PIC18F27J13-I/SO  (hidden comment: PIC18F27J13-I/SO_SOIC28)
MICROCONTROLEUR 8 BITS - I/O - 128 KO : MEMOIRE PROG - 8 TIMERS - 3760 OCTETS : RAM - 13 CANAUX A/D 12 BITS - 48MHz : HORLOGE - SOIC28
footprint SOIC28_PAS=1.27_LARG=10.3_LONG=18 (28-Pin Plastic Small Outline Integrated Circuit ; 28 Leads ; Body Width = 7.5 mm ; Pitch = 1.27 mm ; IPC Low Density)
pins: 1 ~{MCLR} (in), 2 RA0/AN0/C1INA/ULPWU/RP0 (io), 3 RA1/AN1/C2INA/VBG/CTDIN/RP1 (io), 4 RA2/AN2/C2INB/C1IND/C3INB/VREF-/CVREF (io), 5 RA3/AN3/C1INB/VREF+ (io), 6 VDDCORE/VCAP (power), 7 RA5/AN4/C1INC/~{SS1}/HLVDIN/RP2 (io), 8 VSS1 (power), 9 OSC1/CLKI/RA7 (in), 10 OSC2/CLKO/RA6 (in), 11 RC0/T1OSO/T1CKI/RP11 (io), 12 RC1/CCP8/T1OSI/RP12 (io), 13 RC2/AN11/C2IND/CTPLS/RP13 (io), 14 RC3/SCK1/SCL1/RP14 (io), 15 RC4/SDI1/SDA1/RP15 (io), 16 RC5/SDO1/RP16 (io), 17 RC6/CCP9/TX1/CK1/RP17 (io), 18 RC7/CCP10/RX1/DT1/RP18 (io), 19 VSS2 (power), 20 VDD (power), 21 RB0/AN12/C3IND/INT0/RP3 (io), 22 RB1/AN10/C3INC/RTCC/RP4 (io), 23 RB2/AN8/C2INC/CTED1/REFO/RP5 (io), 24 RB3/AN9/C3INA/CTED2/RP6 (io), 25 RB4/CCP4/KBI0/SCL2/RP7 (io), 26 RB5/CCP5/KBI1/SDA2/RP8 (io), 27 RB6/CCP6/KBI2/PGC/RP9 (io), 28 RB7/CCP7/KBI3/PGD/RP10 (io)

## PIC18F27J53-I/SO_SOIC28
designator U?  (value not drawn)
footprint SOIC28_PAS=1.27_LARG=10.3_LONG=18 (28-Pin Plastic Small Outline Integrated Circuit ; 28 Leads ; Body Width = 7.5 mm ; Pitch = 1.27 mm ; IPC Low Density)
pins: 1 ~{MCLR}, 2 RA0/AN0/C1INA/ULPWU/RP0, 3 RA1/AN1/C2INA/VBG/RP1, 4 RA2/AN2/C2INB/C1IND/C3INB/VREF-/CVREF, 5 RA3/AN3/C1INB/VREF+, 6 VDDCORE/VCAP, 7 RA5/AN4/C1INC/~{SS1}/HLVDIN/RCV/RP2, 8 VSS, 9 OSC1/CLKI/RA7, 10 OSC2/CLKO/RA6, 11 RC0/T1OSO/T1CKI/RP11, 12 RC1/CCP8/T1OSI/~{UOE}/RP12, 13 RC2/AN11/C2IND/CTPLS/RP13, 14 VUSB, 15 RC4/D-/VM, 16 RC5/D+/VP, 17 RC6/CCP9/TX1/CK1/RP17, 18 RC7/CCP10/RX1/DT1/SDO1/RP18, 19 VSS, 20 VDD, 21 RB0/AN12/C3IND/INT0/RP3, 22 RB1/AN10/C3INC/RTCC/RP4, 23 RB2/AN8/C2INC/CTED1/VMO/REFO/RP5, 24 RB3/AN9/C3INA/CTED2/VPO/RP6, 25 RB4/CCP4/KBI0/SCK1/SCL1/RP7, 26 RB5/CCP5/KBI1/SDI1/SDA1/RP8, 27 RB6/CCP6/KBI2/PGC/RP9, 28 RB7/CCP7/KBI3/PGD/RP10

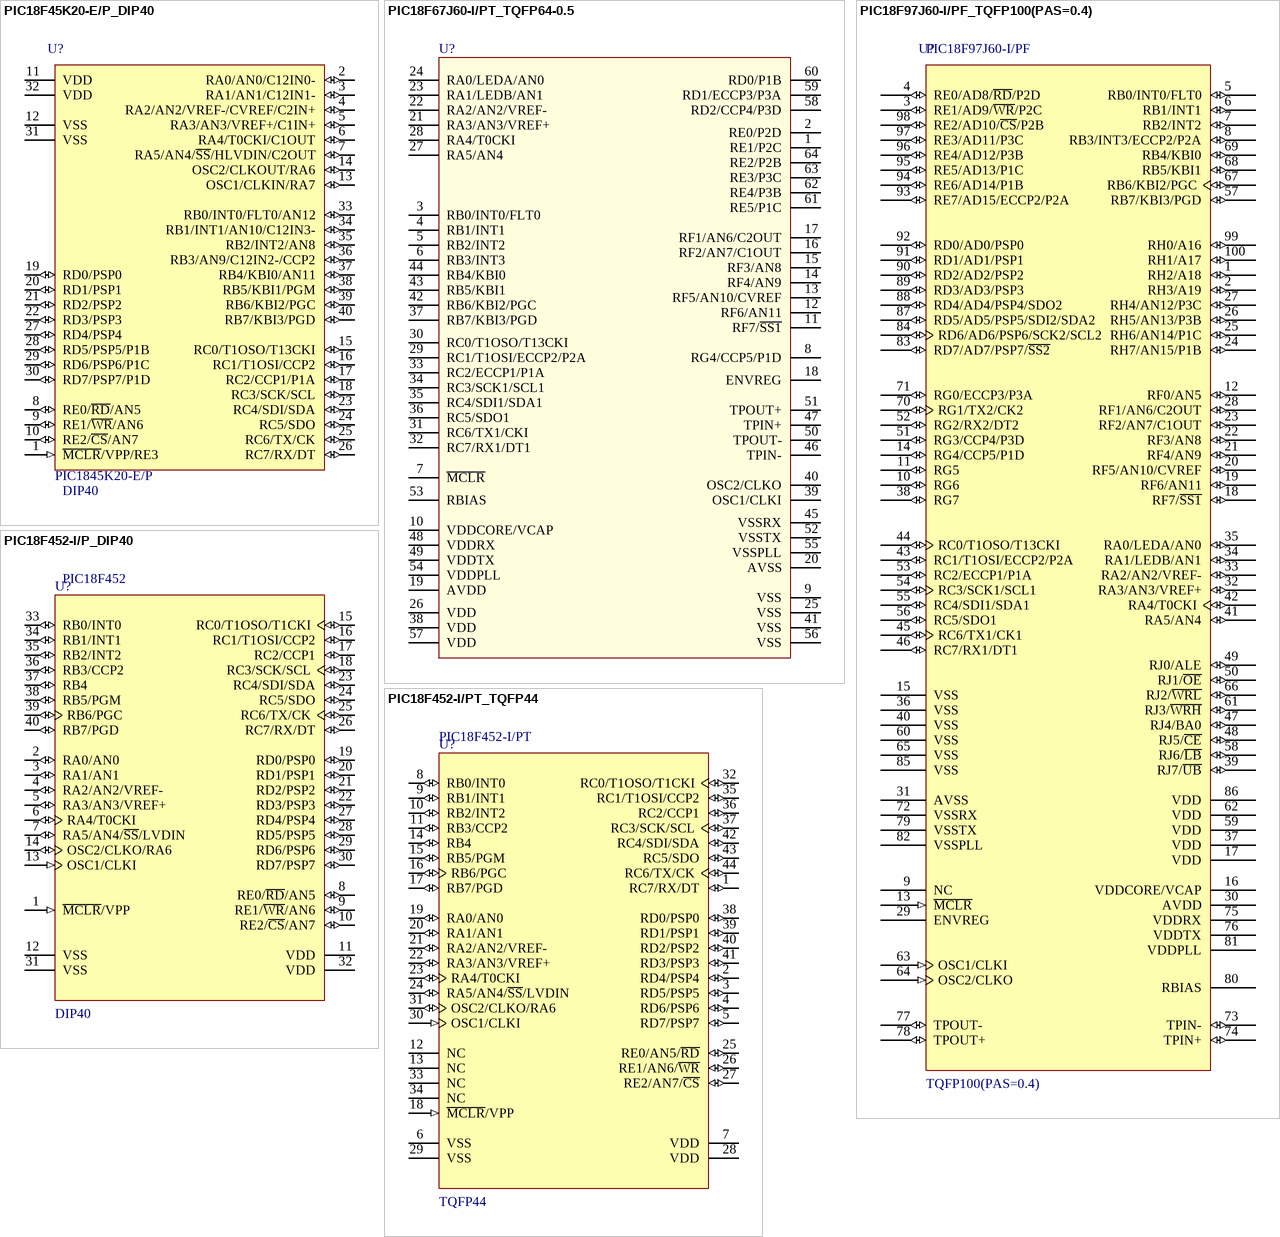
[diagram p5: symbols PIC18F45K20-E/P_DIP40 to PIC18F452-I/PT_TQFP44]